# Altium schematic symbol library HW.SchLib: 328 symbols (part 8 of 10)
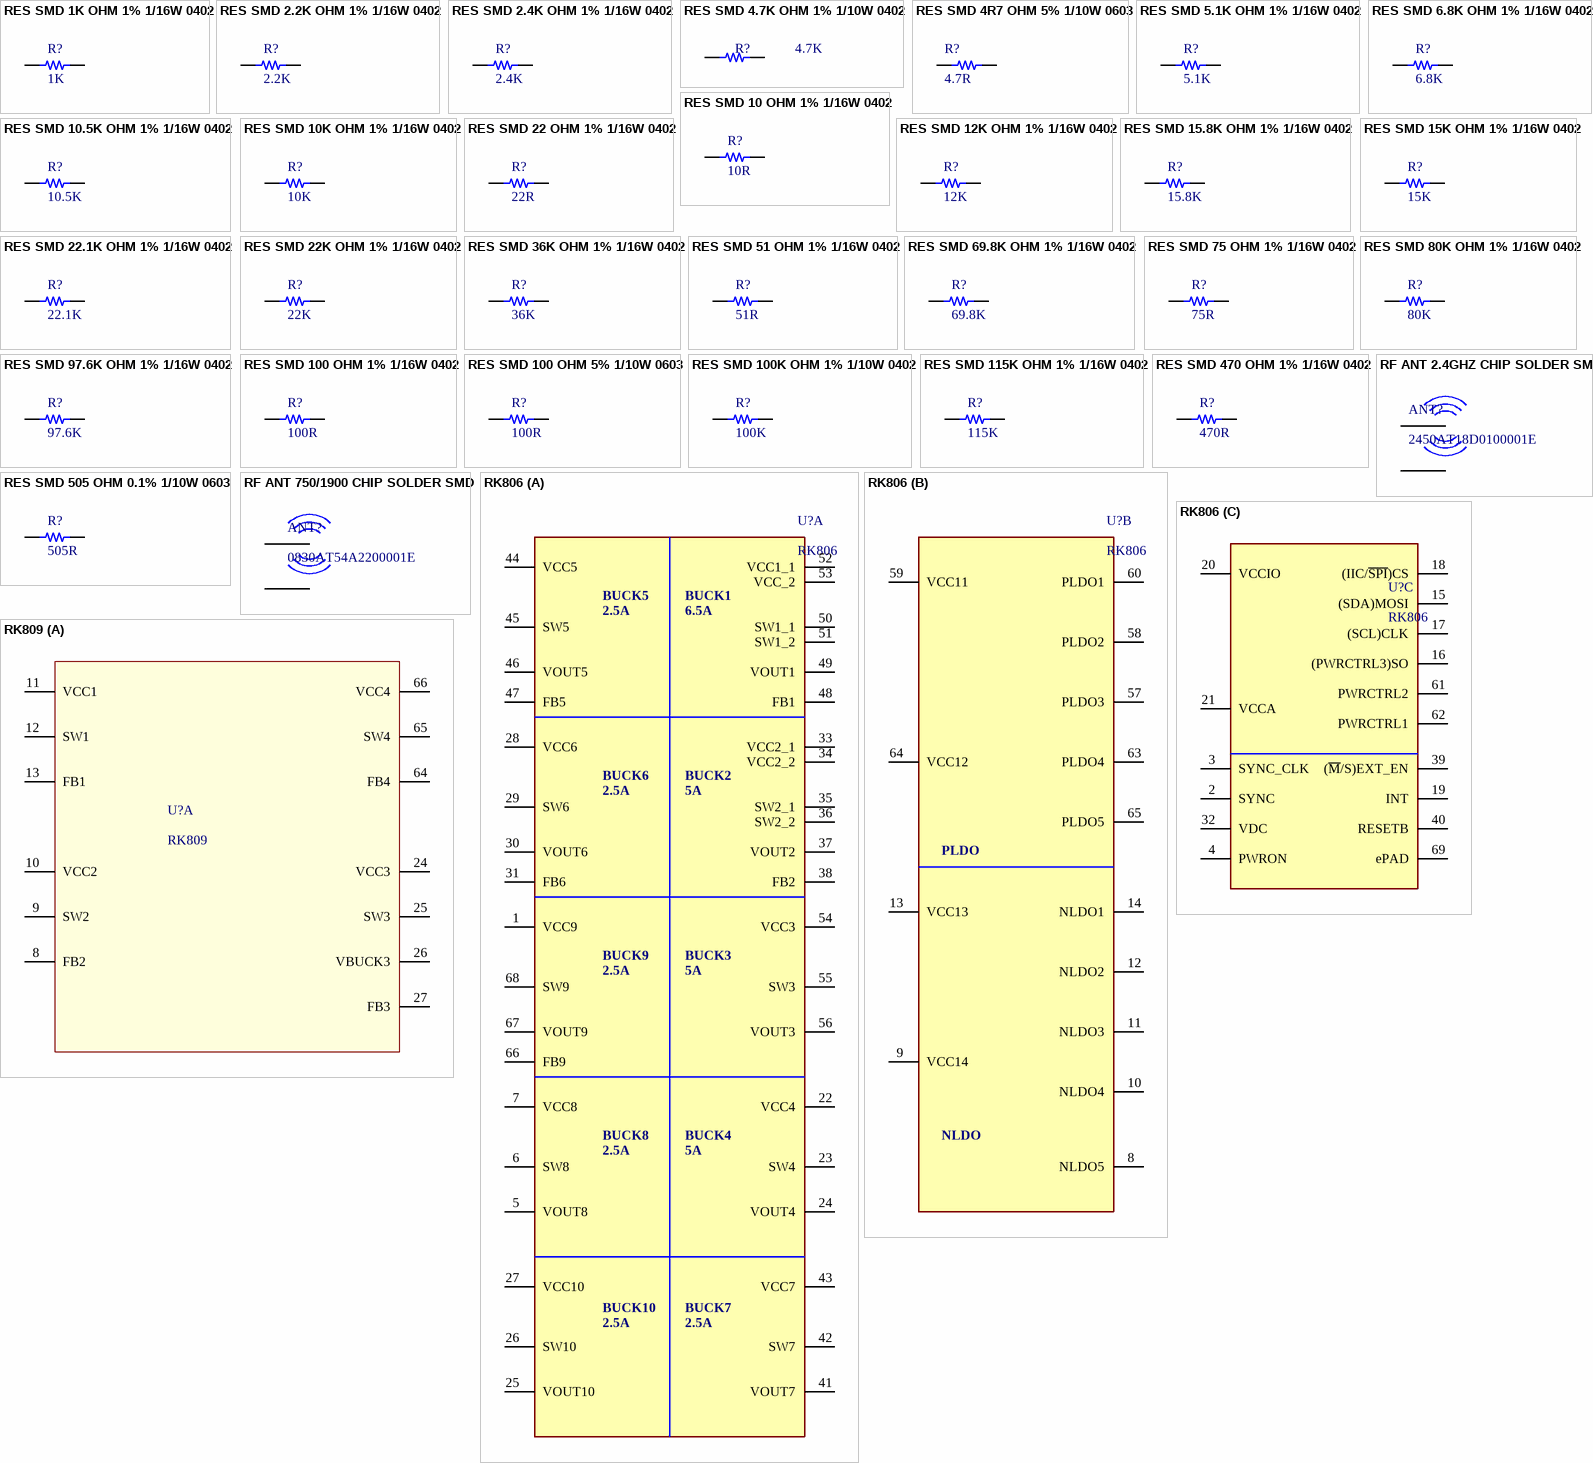
[diagram p30: symbols RES SMD 1K OHM 1% 1/16W 0402 to RK809]

## RES SMD 100 OHM 1% 1/16W 0402
designator R?, comment 100R
SMD Chip Resistor, 100 Ohm, ± 1%, 62.5 mW, 0402 [1005 Metric], Thick Film, General Purpose; Manufacturer: Yageo; Manufacturer Part Number: RC0402FR-07100RL; Power Rating: 62.5mW; Voltage Rating: 50V; Temperature Coefficient: 100ppm/°C; Max Power Dissipation: 63mW; Supplier 1: Future Electronics; RoHS: Yes; Category: Chip SMD Resistors; Stock 1: 6800000; Pricing 1: 10000=0.0012, 100000=0.0011, 300000=0.001, 750000=0.001, 2000000=0.0009 (USD); Case/Package: 0402; Number of Pins: 2; Case Code (Imperial): 0402; Case Code (Metric): 1005; Size Code: 0402; Min Operating Temperature: -55°C; Max Operating Temperature: 155°C; Tolerance: 1%; Voltage Rating (DC): 50V; Resistance: 100R; Packaging: Tape and Reel; Termination: SMD/SMT; Resistor Type: Thick Film; Features: Moisture Resistant; Series: RC; Number of Terminations: 2; Resistance Tolerance: 1%; Construction: Rectangular; Technology: THICK FILM; Length: 1mm; Width: 0.5mm; Height: 0.32mm; Depth: 0.5mm; RoHS Compliant: Yes; Reach SVHC Compliant: No; Military Standard: Not; Lead Free: Lead Free; ComponentLink1URL: https://datasheet.ciiva.com/11808/0900766b80c66297-11808765.pdf?src-supplier=Rs; ComponentLink1Description: https://datasheet.ciiva.com/11808/0900766b80c66297-11808765.pdf?src-supplier=Rs; ComponentLink2URL: https://datasheet.ciiva.com/7849/1784430-7849810.pdf?src-supplier=Element14; ComponentLink2Description: https://datasheet.ciiva.com/7849/1784430-7849810.pdf?src-supplier=Element14; ComponentLink3URL: https://datasheet.ciiva.com/28367/1018594-28367226.pdf?src-supplier=Element14; ComponentLink3Description: https://datasheet.ciiva.com/28367/1018594-28367226.pdf?src-supplier=Element14; ComponentLink4URL: https://datasheet.ciiva.com/22747/1018594-22747511.pdf?src-supplier=Element14; ComponentLink4Description: https://datasheet.ciiva.com/22747/1018594-22747511.pdf?src-supplier=Element14; ComponentLink5URL: https://datasheet.ciiva.com/12667/pyu-rc0402-51-rohs-l-6-r-12667957.pdf?src-supplier=Mouser; ComponentLink5Description: https://datasheet.ciiva.com/12667/pyu-rc0402-51-rohs-l-6-r-12667957.pdf?src-supplier=Mouser; ComponentLink6URL: https://datasheet.ciiva.com/15189/getdatasheetpartid-329466-15189335.pdf?src-supplier=Verical; ComponentLink6Description: https://datasheet.ciiva.com/15189/getdatasheetpartid-329466-15189335.pdf?src-supplier=Verical; ComponentLink7URL: https://datasheet.ciiva.com/16740/pyu-rc0402-51-rohs-l-6-r-16740566.pdf?src-supplier=Future+Electronics; ComponentLink7Description: https://datasheet.ciiva.com/16740/pyu-rc0402-51-rohs-l-6-r-16740566.pdf?src-supplier=Future+Electronics; Supplier Part Number 1: 2266856
footprint R0402B/1005MM
pins: 1, 2

## RES SMD 100 OHM 5% 1/10W 0603
designator R?, comment 100R
SMD Chip Resistor, 100 Ohm, ± 1%, 100 mW, 0603 [1608 Metric], Thick Film, General Purpose; Manufacturer: Yageo; Manufacturer Part Number: RC0603FR-07100RL; Temperature Coefficient: 100ppm/°C; Voltage Rating (DC): 50V; Power Rating: 100mW; Supplier 1: Future Electronics; RoHS: Yes; Category: Chip SMD Resistors; Stock 1: 6005000; Pricing 1: 5000=0.0015, 50000=0.0014, 150000=0.0014, 375000=0.0013, 1000000=0.0012 (USD); Case/Package: 0603; Number of Pins: 2; Case Code (Imperial): 0603; Case Code (Metric): 1608; Size Code: 0603; Min Operating Temperature: -55°C; Max Operating Temperature: 155°C; Resistance: 100R; Tolerance: 1%; Resistor Type: Thick Film; Packaging: Tape and Reel; Voltage Rating: 50V; Termination: SMD/SMT; Features: Moisture Resistant; Series: RC; Max Power Dissipation: 100mW; Number of Terminations: 2; Construction: Rectangular; Resistance Tolerance: 1%; Technology: THICK FILM; Length: 1.6mm; Width: 0.8mm; Height: 0.45mm; Depth: 0.8mm; Lead Free: Lead Free; Reach SVHC Compliant: Unknown; RoHS Compliant: Yes; Military Standard: Not; Supplier Part Number 1: 7334493
footprint R0603B/1608MM (Chip Resistor, 2-Leads, Body 1.6x0.8mm, IPC High Density)
pins: 1, 2

## RES SMD 100K OHM 1% 1/10W 0402
designator R?, comment 100K
SMD Chip Resistor, 100 kOhm, ± 1%, 63 mW, 0402 [1005 Metric], Thick Film, General Purpose; Manufacturer: Yageo; Manufacturer Part Number: RC0402FR-07100KL; Resistance: 100kR; Temperature Coefficient: 100ppm/°C; Power Rating: 63mW; Voltage Rating: 50V; Supplier 1: Future Electronics; RoHS: Yes; Category: Chip SMD Resistors; Stock 1: 29390000; Pricing 1: 10000=0.0019, 100000=0.0018, 300000=0.0017, 750000=0.0016, 2000000=0.0015 (USD); Case/Package: 0402; Case Code (Metric): 1005; Case Code (Imperial): 0402; Min Operating Temperature: -55°C; Max Operating Temperature: 155°C; Resistor Type: Thick Film; Tolerance: 1%; Packaging: Tape and Reel; Package Quantity: 1; Number of Terminations: 2; Termination: SMD/SMT; Max Power Dissipation: 63mW; Features: Moisture Resistant; Series: RC; Resistance Tolerance: 1%; Construction: Rectangular; Technology: THICK FILM; Voltage Rating (AC): 50V; Length: 0.039inch; Width: 0.02inch; Height: 0.016inch; Depth: 0.5mm; Reach SVHC Compliant: No; RoHS Compliant: Yes; Lead Free: 5697LeadFree; Military Standard: Not; ComponentLink1URL: https://datasheet.ciiva.com/11819/0900766b80c66297-11819452.pdf?src-supplier=Rs; ComponentLink1Description: https://datasheet.ciiva.com/11819/0900766b80c66297-11819452.pdf?src-supplier=Rs; ComponentLink2URL: https://datasheet.ciiva.com/22747/1018594-22747509.pdf?src-supplier=Element14; ComponentLink2Description: https://datasheet.ciiva.com/22747/1018594-22747509.pdf?src-supplier=Element14; ComponentLink3URL: https://datasheet.ciiva.com/2453/pyu-r-int-thick-7-2453362.pdf?src-supplier=Digikey; ComponentLink3Description: https://datasheet.ciiva.com/2453/pyu-r-int-thick-7-2453362.pdf?src-supplier=Digikey; ComponentLink4URL: https://datasheet.ciiva.com/2453/pyu-r-int-thick-7-2453363.pdf?src-supplier=Digikey; ComponentLink4Description: https://datasheet.ciiva.com/2453/pyu-r-int-thick-7-2453363.pdf?src-supplier=Digikey; ComponentLink5URL: https://datasheet.ciiva.com/2453/pyu-r-int-thick-7-2453361.pdf?src-supplier=Digikey; ComponentLink5Description: https://datasheet.ciiva.com/2453/pyu-r-int-thick-7-2453361.pdf?src-supplier=Digikey; ComponentLink6URL: https://datasheet.ciiva.com/12667/pyu-rc0402-51-rohs-l-6-r-12667930.pdf?src-supplier=Mouser; ComponentLink6Description: https://datasheet.ciiva.com/12667/pyu-rc0402-51-rohs-l-6-r-12667930.pdf?src-supplier=Mouser; ComponentLink7URL: https://datasheet.ciiva.com/15189/getdatasheetpartid-323696-15189334.pdf?src-supplier=Verical; ComponentLink7Description: https://datasheet.ciiva.com/15189/getdatasheetpartid-323696-15189334.pdf?src-supplier=Verical; Supplier Part Number 1: 6468466
footprint R0402B/1005MM
pins: 1, 2

## RES SMD 115K OHM 1% 1/16W 0402
designator R?, comment 115K
SMD Chip Resistor, 115 kOhm, ± 1%, 63 mW, 0402 [1005 Metric], Thick Film, General Purpose; Manufacturer: Yageo; Manufacturer Part Number: RC0402FR-07115KL; Resistance: 115kR; Voltage Rating: 50V; Temperature Coefficient: 100ppm/°C; Power Rating: 62.5mW; Max Power Dissipation: 63mW; Supplier 1: Future Electronics; RoHS: Yes; Category: Chip SMD Resistors; Stock 1: 1240000; Pricing 1: 10000=0.0013, 100000=0.0012, 300000=0.0012, 1250000=0.0011, 3000000=0.001 (USD); Case/Package: 0402; Contact Plating: Tin,Matte; Case Code (Imperial): 0402; Case Code (Metric): 1005; Size Code: 0402; Min Operating Temperature: -55°C; Max Operating Temperature: 155°C; Packaging: Tape and Reel; Tolerance: 1%; Termination: SMD/SMT; Series: RC; Number of Terminations: 2; Features: Moisture Resistant; Voltage Rating (DC): 50V; Length: 0.039inch; Width: 0.5mm; Height: 0.016inch; RoHS Compliant: Yes; Lead Free: 5697LeadFree; ComponentLink1URL: https://datasheet.ciiva.com/17419/pyu-rc0402-51-rohs-l-6-r-17419449.pdf?src-supplier=Future+Electronics; ComponentLink1Description: https://datasheet.ciiva.com/17419/pyu-rc0402-51-rohs-l-6-r-17419449.pdf?src-supplier=Future+Electronics; ComponentLink2URL: https://datasheet.ciiva.com/8887/pyu-rc0402-51-rohs-l-6-8887689.pdf?src-supplier=Avnet; ComponentLink2Description: https://datasheet.ciiva.com/8887/pyu-rc0402-51-rohs-l-6-8887689.pdf?src-supplier=Avnet; Supplier Part Number 1: 8456675
footprint R0402B/1005MM
pins: 1, 2

## RES SMD 470 OHM 1% 1/16W 0402
designator R?, comment 470R
SMD Chip Resistor, 470 Ohm, ± 1%, 63 mW, 0402 [1005 Metric], Thick Film, General Purpose; Manufacturer: Yageo; Manufacturer Part Number: AC0402FR-07470RL; Supplier 1: Future Electronics; RoHS: Yes; Category: Chip SMD Resistors; Stock 1: 200000; Pricing 1: 10000=0.0011, 50000=0.001, 200000=0.0009, 300000=0.0009, 500000=0.0009, 1000000=0.0009, 1250000=0.0008, 3000000=0.0008 (USD); Lead Free: 5697LeadFree; ComponentLink1URL: http://www.mouser.com/ds/2/447/yageodocoutput-1111992.pdf?src-supplier=Mouser; ComponentLink1Description: http://www.mouser.com/ds/2/447/yageodocoutput-1111992.pdf?src-supplier=Mouser; ComponentLink2URL: http://www.yageo.com/NewPortal/yageodocoutput?fileName=/pdf/R-Chip/PYu-AC_51_RoHS_L_6.pdf&src-supplier=Digikey; ComponentLink2Description: http://www.yageo.com/NewPortal/yageodocoutput?fileName=/pdf/R-Chip/PYu-AC_51_RoHS_L_6.pdf&src-supplier=Digikey; ComponentLink3URL: http://www.yageo.com/documents/recent/PYu-AC_51_RoHS_L_2_revised.pdf?src-supplier=Future+Electronics; ComponentLink3Description: http://www.yageo.com/documents/recent/PYu-AC_51_RoHS_L_2_revised.pdf?src-supplier=Future+Electronics; ComponentLink4URL: https://datasheet.octopart.com/AC0402FR-07470RL-Yageo-datasheet-151884373.pdf?src-supplier=Future+Electronics; ComponentLink4Description: https://datasheet.octopart.com/AC0402FR-07470RL-Yageo-datasheet-151884373.pdf?src-supplier=Future+Electronics; Supplier Part Number 1: 6028462
footprint R0402B/1005MM
pins: 1, 2

## RES SMD 505 OHM 0.1% 1/10W 0603
designator R?, comment 505R
High Precision-High Stability Chip Resistor Thin Film 0603 505Ohm 0.1% Paper T/R; Manufacturer: Yageo; Manufacturer Part Number: RT0603BRD07505RL; Max Power Dissipation: 100mW; Temperature Coefficient: 25ppm/°C; Supplier 1: Digikey; RoHS: Yes; Category: Chip SMD Resistors; Stock 1: 10926; Pricing 1: 1=0.14, 10=0.104, 50=0.0822, 100=0.0737, 500=0.05612, 1000=0.04959 (USD); Case/Package: 0603; Min Operating Temperature: -55°C; Max Operating Temperature: 155°C; Packaging: Tape and Reel; Resistance: 505R; Number of Terminations: 2; Tolerance: 0.1%; Series: RT; RoHS Compliant: Yes; ComponentLink1URL: http://www.yageo.com/documents/recent/PYu-RT_1-to-0.01_RoHS_L_8.pdf?src-supplier=Digikey; ComponentLink1Description: http://www.yageo.com/documents/recent/PYu-RT_1-to-0.01_RoHS_L_8.pdf?src-supplier=Digikey; Supplier Part Number 1: 13-RT0603BRD07505RLCT-ND
footprint R0603B/1608MM (Chip Resistor, 2-Leads, Body 1.6x0.8mm, IPC High Density)
pins: 1, 2

## RF ANT 2.4GHZ CHIP SOLDER SMD
designator ANT?, comment 2450AT18D0100001E
RF ANT 2.4GHZ CHIP SOLDER SMD; Manufacturer: Johanson; Supplier 1: Digikey; Manufacturer Part Number: 2450AT18D0100001E; RoHS: No; Stock 1: 372086; Pricing 1: 1=0.68, 10=0.595, 25=0.5592, 100=0.4564, 250=0.42392, 500=0.36078, 1000=0.28862 (USD); Supplier Part Number 1: 712-2450AT18D0100001ECT-ND
footprint ANT_JOH_2450AT18D0100 (Antenna, Johanson 2450AT18D0100)
pins: 1 AT, 2 0, 3, 4

## RF ANT 750/1900 CHIP SOLDER SMD
designator ANT?, comment 0830AT54A2200001E
Rf Ant 750/1900 Chip Solder SMD; Manufacturer: Johanson; Supplier 1: Digikey; Manufacturer Part Number: 0830AT54A2200001E; RoHS: Yes; Category: RF Antennas; Stock 1: 3132; Pricing 1: 1=2.59, 10=2.323, 25=2.1912, 100=1.8669, 250=1.75296, 500=1.53384, 1000=1.27089, 2500=1.18324, 5000=1.13942 (USD); RoHS Compliant: Yes; Supplier Part Number 1: 712-0830AT54A2200001ECT-ND
footprint 0830AT54A2200E_JOT
pins: 1 AT, 2 0

## RK806
designator U?
Power Management IC
footprint QFN-68
part A pins: 1 VCC9, 5 VOUT8, 6 SW8, 7 VCC8, 22 VCC4, 23 SW4, 24 VOUT4, 25 VOUT10, 26 SW10, 27 VCC10, 28 VCC6, 29 SW6, 30 VOUT6, 31 FB6, 33 VCC2_1, 34 VCC2_2, 35 SW2_1, 36 SW2_2, 37 VOUT2, 38 FB2, 41 VOUT7, 42 SW7, 43 VCC7, 44 VCC5, 45 SW5, 46 VOUT5, 47 FB5, 48 FB1, 49 VOUT1, 50 SW1_1, 51 SW1_2, 52 VCC1_1, 53 VCC_2, 54 VCC3, 55 SW3, 56 VOUT3, 66 FB9, 67 VOUT9, 68 SW9
part B pins: 8 NLDO5, 9 VCC14, 10 NLDO4, 11 NLDO3, 12 NLDO2, 13 VCC13, 14 NLDO1, 57 PLDO3, 58 PLDO2, 59 VCC11, 60 PLDO1, 63 PLDO4, 64 VCC12, 65 PLDO5
part C pins: 2 SYNC, 3 SYNC_CLK, 4 PWRON, 15 (SDA)MOSI, 16 (PWRCTRL3)SO, 17 (SCL)CLK, 18 (IIC/~{SPI})CS, 19 INT, 20 VCCIO, 21 VCCA, 32 VDC, 39 (~{M}/S)EXT_EN, 40 RESETB, 61 PWRCTRL2, 62 PWRCTRL1, 69 ePAD
part A text: BUCK5; BUCK1; 2.5A; 6.5A; BUCK6; BUCK2; 5A; BUCK9; BUCK3; BUCK8; BUCK4; BUCK10; BUCK7
part B text: PLDO; NLDO

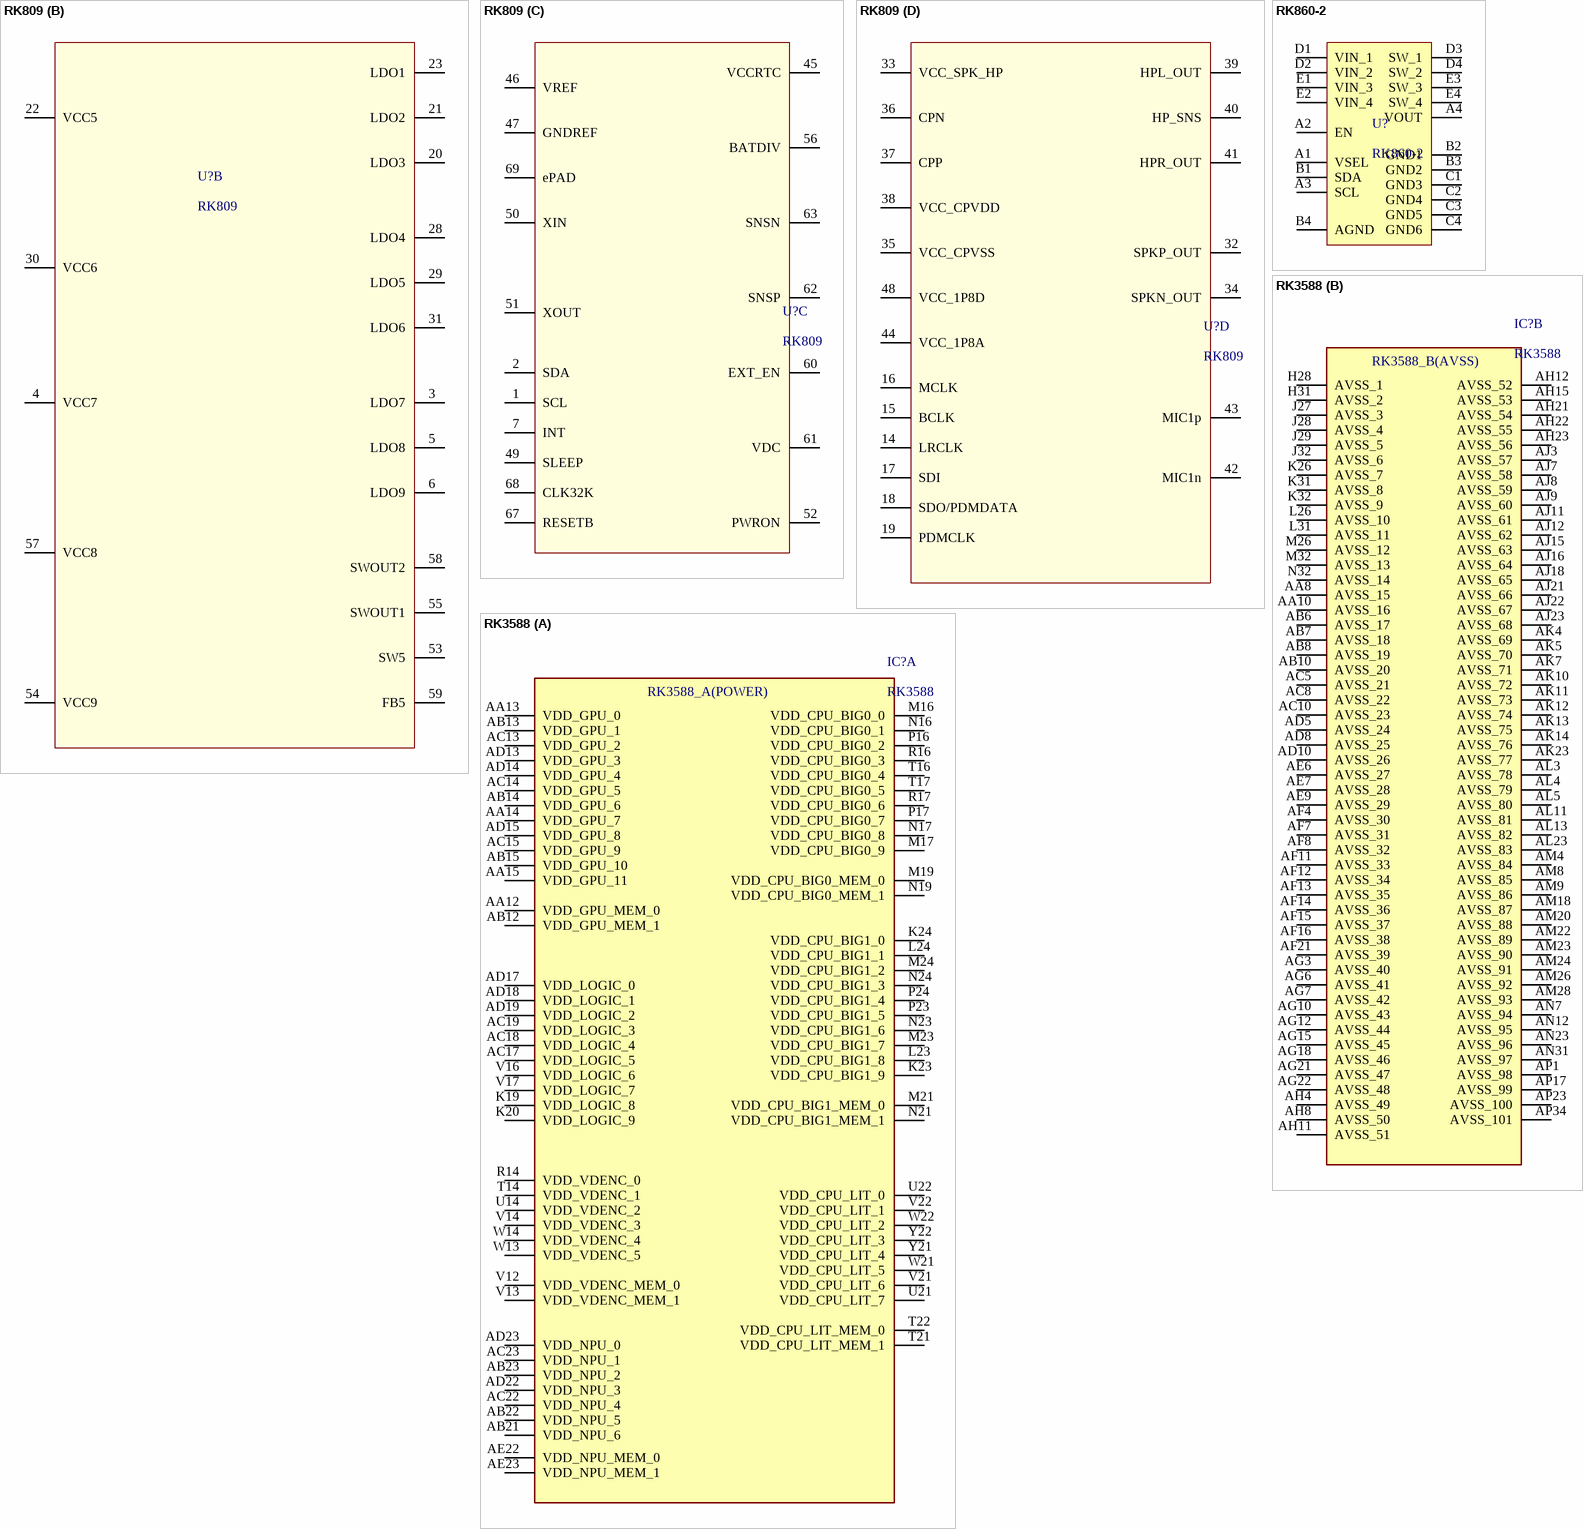
[diagram p9: symbols RK809 to RK3588]

## RK809
designator U?
Power Management IC
footprint QFN35P700X700X80-69N
part A pins: 8 FB2, 9 SW2, 10 VCC2, 11 VCC1, 12 SW1, 13 FB1, 24 VCC3, 25 SW3, 26 VBUCK3, 27 FB3, 64 FB4, 65 SW4, 66 VCC4
part B pins: 3 LDO7, 4 VCC7, 5 LDO8, 6 LDO9, 20 LDO3, 21 LDO2, 22 VCC5, 23 LDO1, 28 LDO4, 29 LDO5, 30 VCC6, 31 LDO6, 53 SW5, 54 VCC9, 55 SWOUT1, 57 VCC8, 58 SWOUT2, 59 FB5
part C pins: 1 SCL, 2 SDA, 7 INT, 45 VCCRTC, 46 VREF, 47 GNDREF, 49 SLEEP, 50 XIN, 51 XOUT, 52 PWRON, 56 BATDIV, 60 EXT_EN, 61 VDC, 62 SNSP, 63 SNSN, 67 RESETB, 68 CLK32K, 69 ePAD
part D pins: 14 LRCLK, 15 BCLK, 16 MCLK, 17 SDI, 18 SDO/PDMDATA, 19 PDMCLK, 32 SPKP_OUT, 33 VCC_SPK_HP, 34 SPKN_OUT, 35 VCC_CPVSS, 36 CPN, 37 CPP, 38 VCC_CPVDD, 39 HPL_OUT, 40 HP_SNS, 41 HPR_OUT, 42 MIC1n, 43 MIC1p, 44 VCC_1P8A, 48 VCC_1P8D

## RK860-2
designator U?
footprint WLCSP-20-P1_NMD
pins: A1 VSEL, A2 EN, A3 SCL, A4 VOUT, B1 SDA, B2 GND1, B3 GND2, B4 AGND, C1 GND3, C2 GND4, C3 GND5, C4 GND6, D1 VIN_1, D2 VIN_2, D3 SW_1, D4 SW_2, E1 VIN_3, E2 VIN_4, E3 SW_3, E4 SW_4

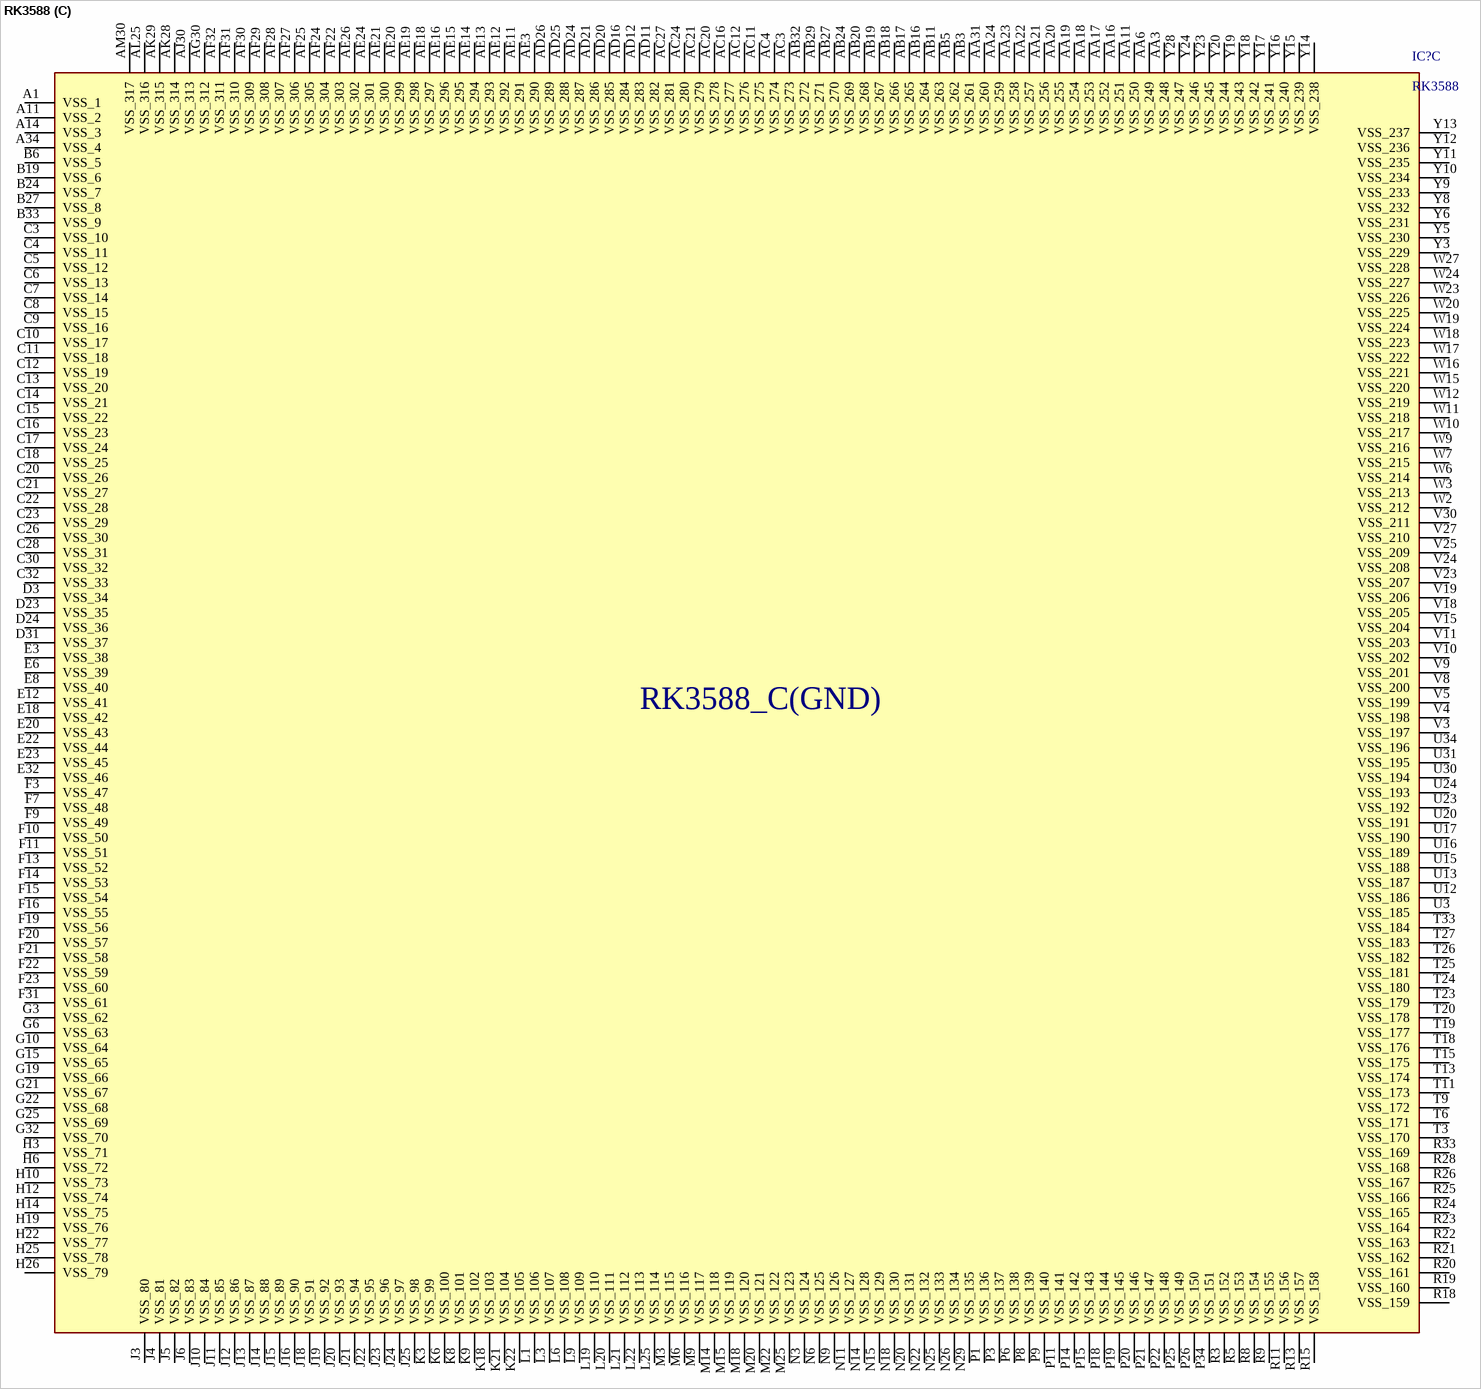
[diagram p10: symbol RK3588]

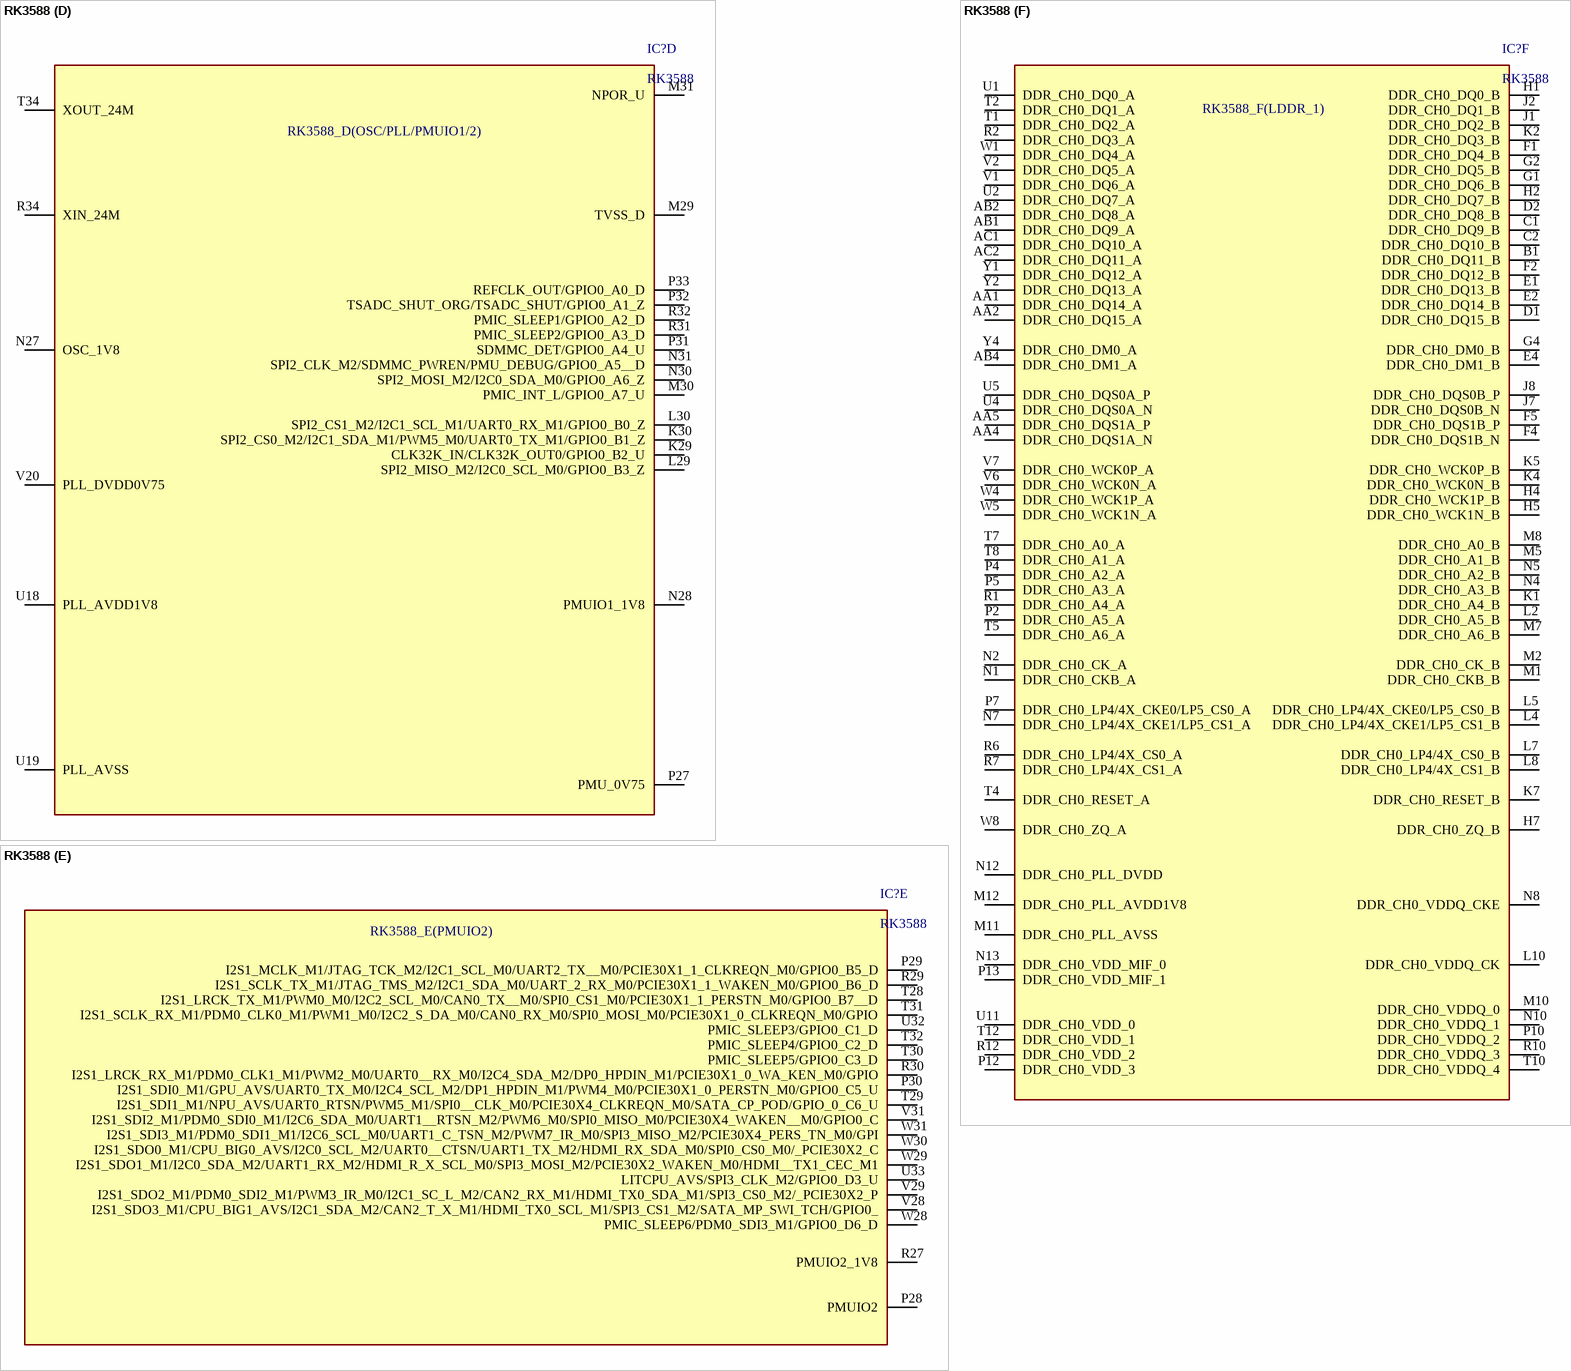
[diagram p11: symbol RK3588]

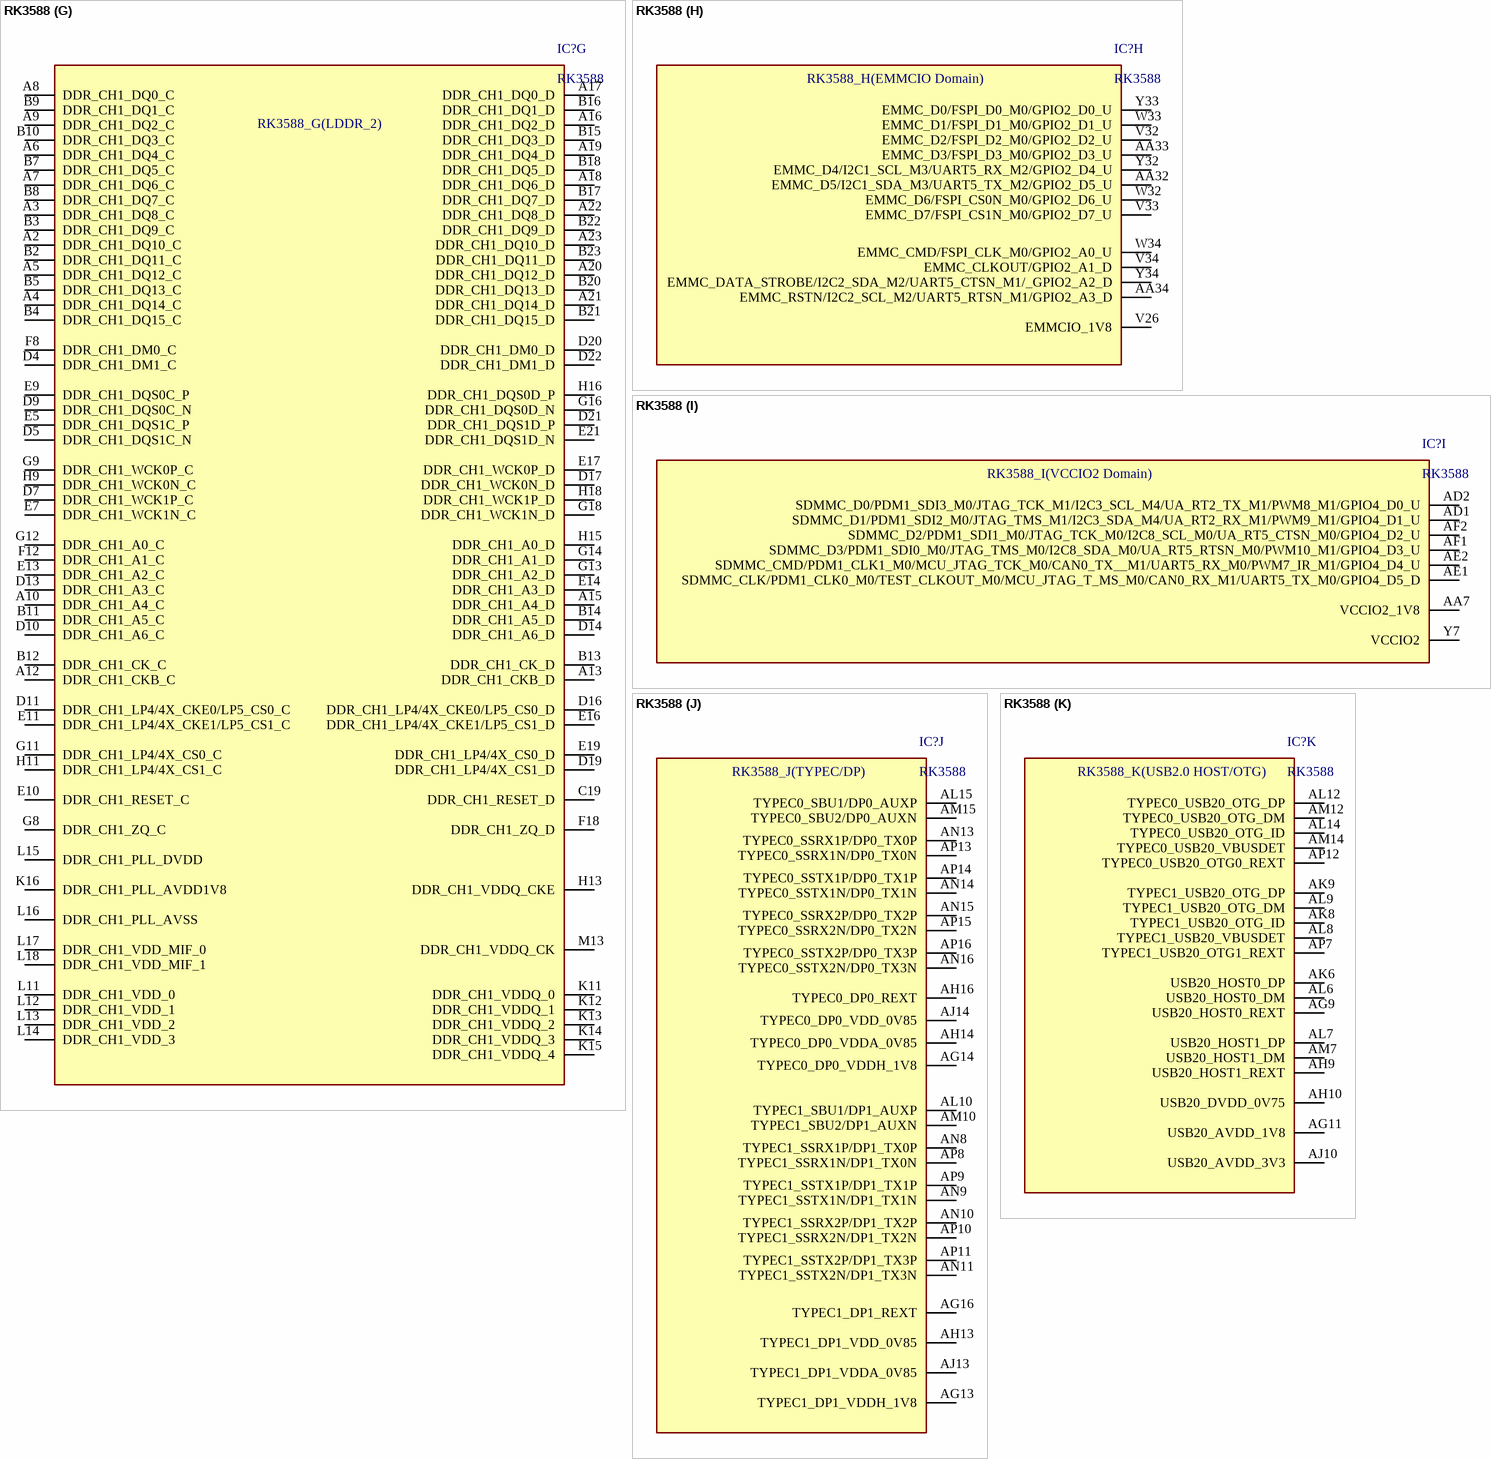
[diagram p12: symbol RK3588]

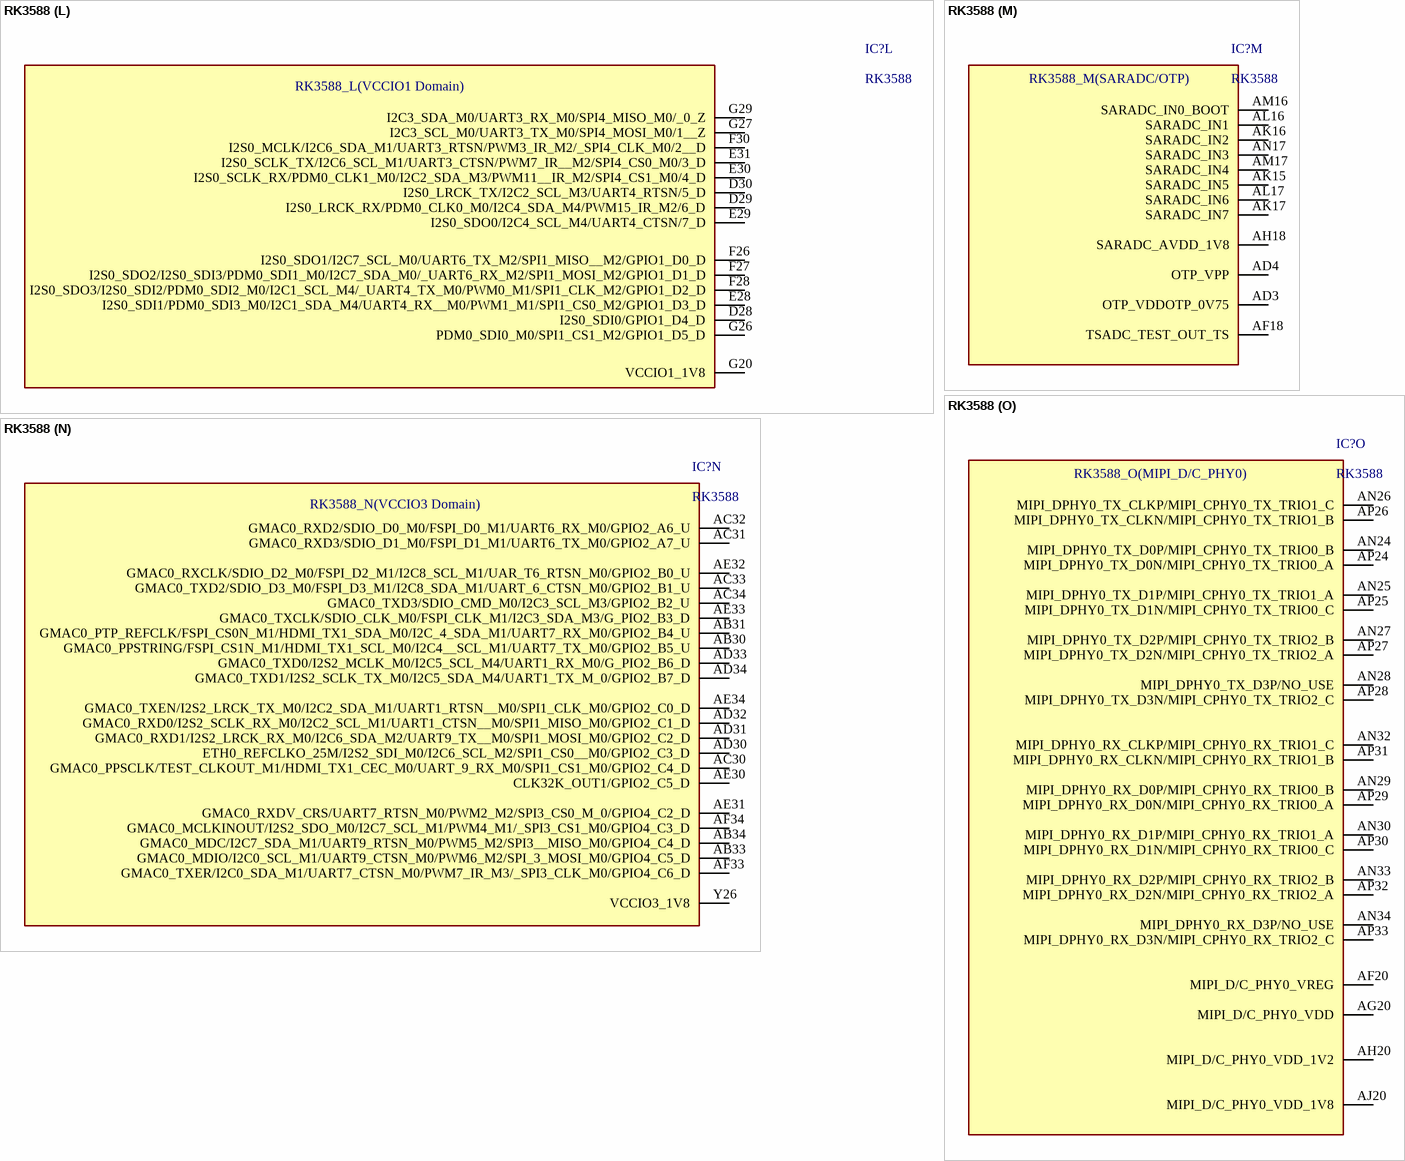
[diagram p13: symbol RK3588]

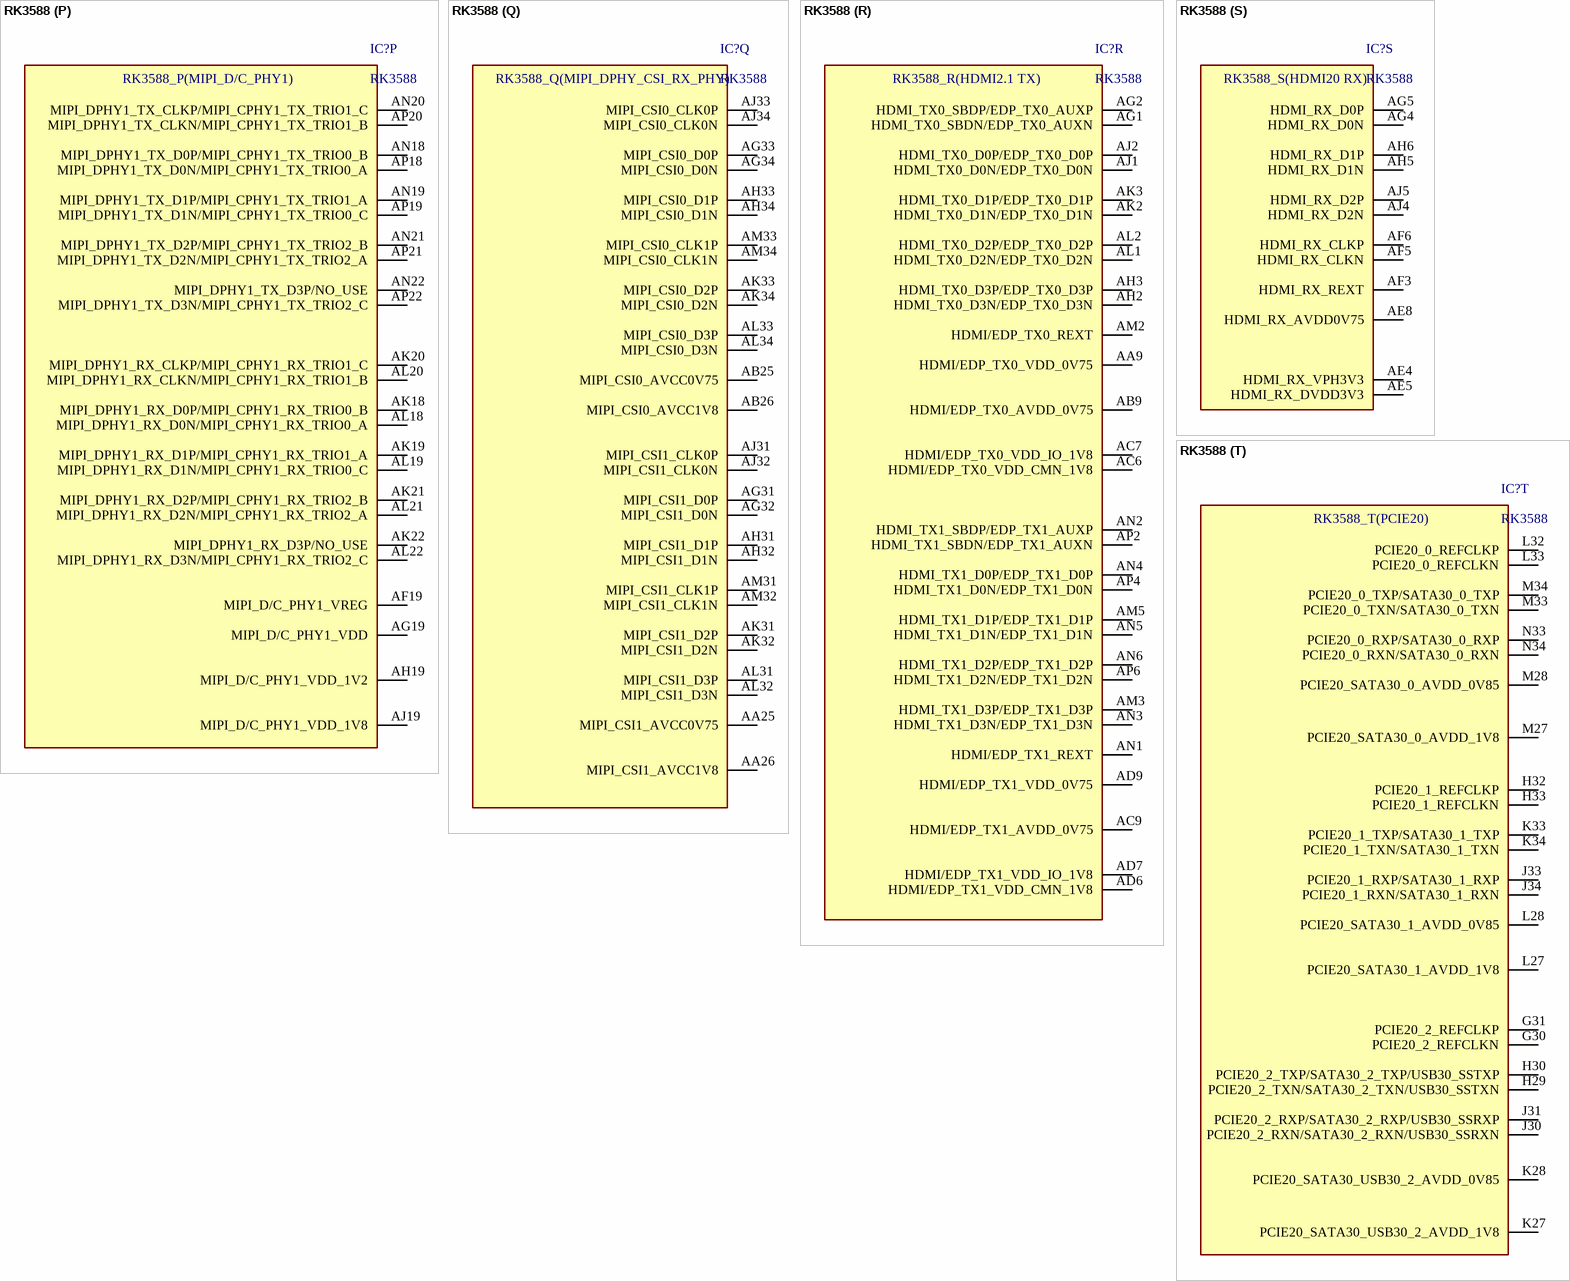
[diagram p14: symbol RK3588]

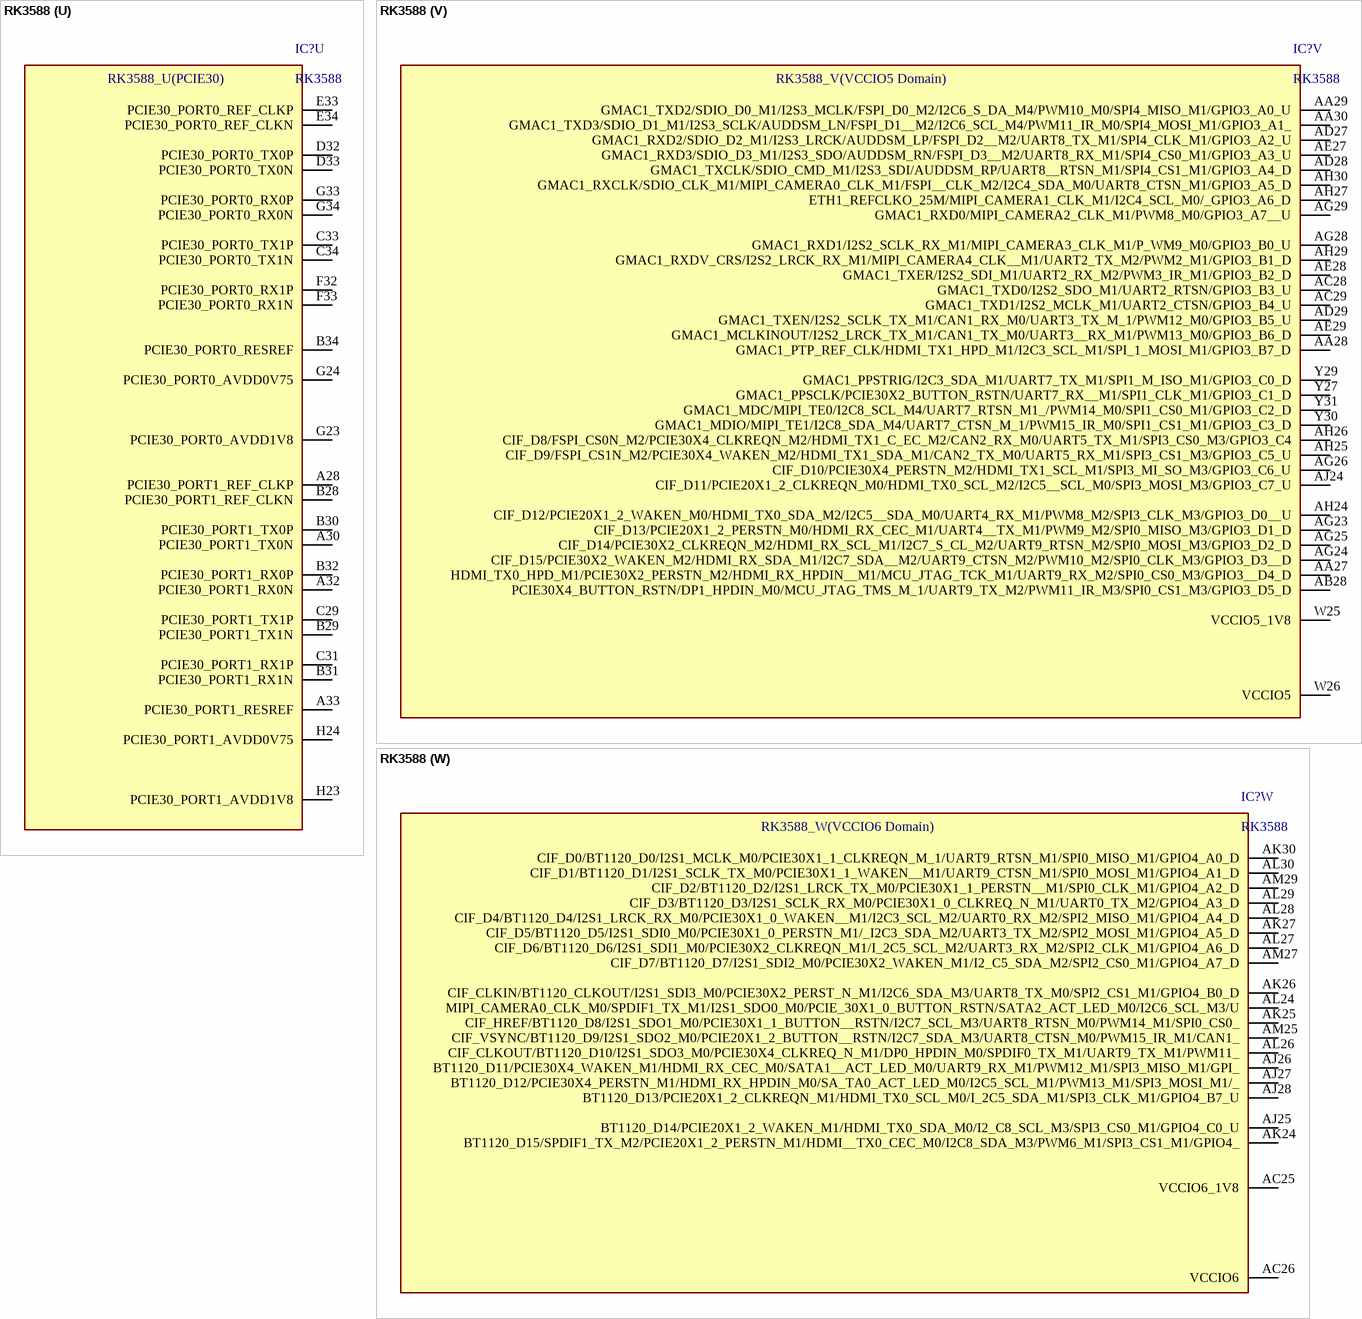
[diagram p15: symbol RK3588]

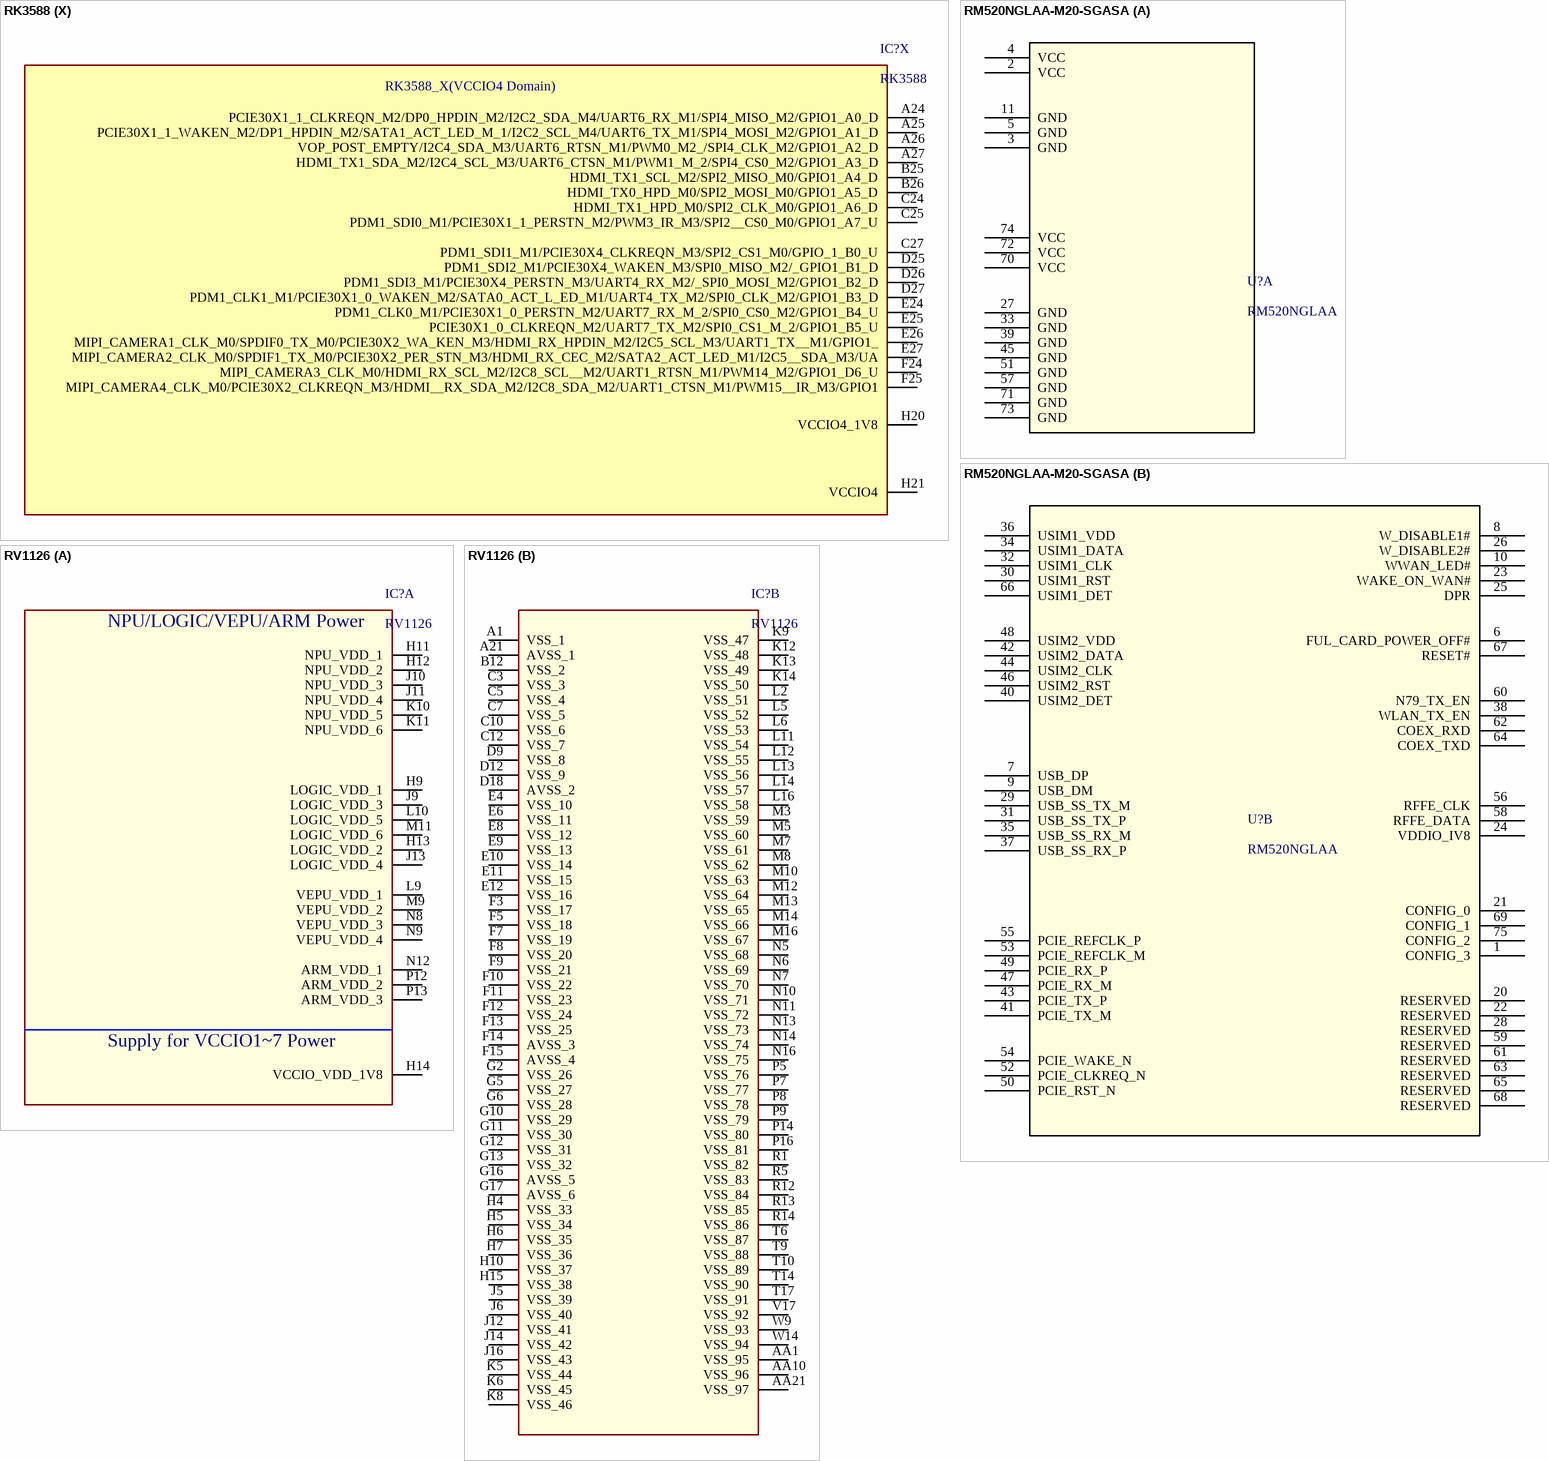
[diagram p16: symbols RK3588 to RV1126]

## RK3588
designator IC?
Integrated Circuit; Manufacturer_Name: Rockchip; Datasheet Link: https://www.cnx-software.com/pdf/Rockchip%C2%A0RK3588%C2%A0Datasheet%C2%A0V0.1-20210727.pdf; Height: 1.89mm; Manufacturer_Part_Number: RK3588
footprint BGA1088C65P34X34_RK3588
part A pins: AA12 VDD_GPU_MEM_0, AA13 VDD_GPU_0, AA14 VDD_GPU_7, AA15 VDD_GPU_11, AB12 VDD_GPU_MEM_1, AB13 VDD_GPU_1, AB14 VDD_GPU_6, AB15 VDD_GPU_10, AB21 VDD_NPU_6, AB22 VDD_NPU_5, AB23 VDD_NPU_2, AC13 VDD_GPU_2, AC14 VDD_GPU_5, AC15 VDD_GPU_9, AC17 VDD_LOGIC_5, AC18 VDD_LOGIC_4, AC19 VDD_LOGIC_3, AC22 VDD_NPU_4, AC23 VDD_NPU_1, AD13 VDD_GPU_3, AD14 VDD_GPU_4, AD15 VDD_GPU_8, AD17 VDD_LOGIC_0, AD18 VDD_LOGIC_1, AD19 VDD_LOGIC_2, AD22 VDD_NPU_3, AD23 VDD_NPU_0, AE22 VDD_NPU_MEM_0, AE23 VDD_NPU_MEM_1, K19 VDD_LOGIC_8, K20 VDD_LOGIC_9, K23 VDD_CPU_BIG1_9, K24 VDD_CPU_BIG1_0, L23 VDD_CPU_BIG1_8, L24 VDD_CPU_BIG1_1, M16 VDD_CPU_BIG0_0, M17 VDD_CPU_BIG0_9, M19 VDD_CPU_BIG0_MEM_0, M21 VDD_CPU_BIG1_MEM_0, M23 VDD_CPU_BIG1_7, M24 VDD_CPU_BIG1_2, N16 VDD_CPU_BIG0_1, N17 VDD_CPU_BIG0_8, N19 VDD_CPU_BIG0_MEM_1, N21 VDD_CPU_BIG1_MEM_1, N23 VDD_CPU_BIG1_6, N24 VDD_CPU_BIG1_3, P16 VDD_CPU_BIG0_2, P17 VDD_CPU_BIG0_7, P23 VDD_CPU_BIG1_5, P24 VDD_CPU_BIG1_4, R14 VDD_VDENC_0, R16 VDD_CPU_BIG0_3, R17 VDD_CPU_BIG0_6, T14 VDD_VDENC_1, T16 VDD_CPU_BIG0_4, T17 VDD_CPU_BIG0_5, T21 VDD_CPU_LIT_MEM_1, T22 VDD_CPU_LIT_MEM_0, U14 VDD_VDENC_2, U21 VDD_CPU_LIT_7, U22 VDD_CPU_LIT_0, V12 VDD_VDENC_MEM_0, V13 VDD_VDENC_MEM_1, V14 VDD_VDENC_3, V16 VDD_LOGIC_6, V17 VDD_LOGIC_7, V21 VDD_CPU_LIT_6, V22 VDD_CPU_LIT_1, W13 VDD_VDENC_5, W14 VDD_VDENC_4, W21 VDD_CPU_LIT_5, W22 VDD_CPU_LIT_2, Y21 VDD_CPU_LIT_4, Y22 VDD_CPU_LIT_3
part B pins: AA8 AVSS_15, AA10 AVSS_16, AB6 AVSS_17, AB7 AVSS_18, AB8 AVSS_19, AB10 AVSS_20, AC5 AVSS_21, AC8 AVSS_22, AC10 AVSS_23, AD5 AVSS_24, AD8 AVSS_25, AD10 AVSS_26, AE6 AVSS_27, AE7 AVSS_28, AE9 AVSS_29, AF4 AVSS_30, AF7 AVSS_31, AF8 AVSS_32, AF11 AVSS_33, AF12 AVSS_34, AF13 AVSS_35, AF14 AVSS_36, AF15 AVSS_37, AF16 AVSS_38, AF21 AVSS_39, AG3 AVSS_40, AG6 AVSS_41, AG7 AVSS_42, AG10 AVSS_43, AG12 AVSS_44, AG15 AVSS_45, AG18 AVSS_46, AG21 AVSS_47, AG22 AVSS_48, AH4 AVSS_49, AH8 AVSS_50, AH11 AVSS_51, AH12 AVSS_52, AH15 AVSS_53, AH21 AVSS_54, AH22 AVSS_55, AH23 AVSS_56, AJ3 AVSS_57, AJ7 AVSS_58, AJ8 AVSS_59, AJ9 AVSS_60, AJ11 AVSS_61, AJ12 AVSS_62, AJ15 AVSS_63, AJ16 AVSS_64, AJ18 AVSS_65, AJ21 AVSS_66, AJ22 AVSS_67, AJ23 AVSS_68, AK4 AVSS_69, AK5 AVSS_70, AK7 AVSS_71, AK10 AVSS_72, AK11 AVSS_73, AK12 AVSS_74, AK13 AVSS_75, AK14 AVSS_76, AK23 AVSS_77, AL3 AVSS_78, AL4 AVSS_79, AL5 AVSS_80, AL11 AVSS_81, AL13 AVSS_82, AL23 AVSS_83, AM4 AVSS_84, AM8 AVSS_85, AM9 AVSS_86, AM18 AVSS_87, AM20 AVSS_88, AM22 AVSS_89, AM23 AVSS_90, AM24 AVSS_91, AM26 AVSS_92, AM28 AVSS_93, AN7 AVSS_94, AN12 AVSS_95, AN23 AVSS_96, AN31 AVSS_97, AP1 AVSS_98, AP17 AVSS_99, AP23 AVSS_100, AP34 AVSS_101, H28 AVSS_1, H31 AVSS_2, J27 AVSS_3, J28 AVSS_4, J29 AVSS_5, J32 AVSS_6, K26 AVSS_7, K31 AVSS_8, K32 AVSS_9, L26 AVSS_10, L31 AVSS_11, M26 AVSS_12, M32 AVSS_13, N32 AVSS_14
part C pins: A1 VSS_1, A11 VSS_2, A14 VSS_3, A34 VSS_4, AA3 VSS_248, AA6 VSS_249, AA11 VSS_250, AA16 VSS_251, AA17 VSS_252, AA18 VSS_253, AA19 VSS_254, AA20 VSS_255, AA21 VSS_256, AA22 VSS_257, AA23 VSS_258, AA24 VSS_259, AA31 VSS_260, AB3 VSS_261, AB5 VSS_262, AB11 VSS_263, AB16 VSS_264, AB17 VSS_265, AB18 VSS_266, AB19 VSS_267, AB20 VSS_268, AB24 VSS_269, AB27 VSS_270, AB29 VSS_271, AB32 VSS_272, AC3 VSS_273, AC4 VSS_274, AC11 VSS_275, AC12 VSS_276, AC16 VSS_277, AC20 VSS_278, AC21 VSS_279, AC24 VSS_280, AC27 VSS_281, AD11 VSS_282, AD12 VSS_283, AD16 VSS_284, AD20 VSS_285, AD21 VSS_286, AD24 VSS_287, AD25 VSS_288, AD26 VSS_289, AE3 VSS_290, AE11 VSS_291, AE12 VSS_292, AE13 VSS_293, AE14 VSS_294, AE15 VSS_295, AE16 VSS_296, AE18 VSS_297, AE19 VSS_298, AE20 VSS_299, AE21 VSS_300, AE24 VSS_301, AE26 VSS_302, AF22 VSS_303, AF24 VSS_304, AF25 VSS_305, AF27 VSS_306, AF28 VSS_307, AF29 VSS_308, AF30 VSS_309, AF31 VSS_310, AF32 VSS_311, AG30 VSS_312, AJ30 VSS_313, AK28 VSS_314, AK29 VSS_315, AL25 VSS_316, AM30 VSS_317, B6 VSS_5, B19 VSS_6, B24 VSS_7, B27 VSS_8, B33 VSS_9, C3 VSS_10, C4 VSS_11, C5 VSS_12, C6 VSS_13, C7 VSS_14, C8 VSS_15, C9 VSS_16, C10 VSS_17, C11 VSS_18, C12 VSS_19, C13 VSS_20, C14 VSS_21, C15 VSS_22, C16 VSS_23, C17 VSS_24, C18 VSS_25, C20 VSS_26, C21 VSS_27, C22 VSS_28, C23 VSS_29, C26 VSS_30, C28 VSS_31, C30 VSS_32, C32 VSS_33, D3 VSS_34, D23 VSS_35, D24 VSS_36, D31 VSS_37, E3 VSS_38, E6 VSS_39, E8 VSS_40, E12 VSS_41, E18 VSS_42, E20 VSS_43, E22 VSS_44, E23 VSS_45, E32 VSS_46, F3 VSS_47, F7 VSS_48, F9 VSS_49, F10 VSS_50, F11 VSS_51, F13 VSS_52, F14 VSS_53, F15 VSS_54, F16 VSS_55, F19 VSS_56, F20 VSS_57, F21 VSS_58, F22 VSS_59, F23 VSS_60, F31 VSS_61, G3 VSS_62, G6 VSS_63, G10 VSS_64, G15 VSS_65, G19 VSS_66, G21 VSS_67, G22 VSS_68, G25 VSS_69, G32 VSS_70, H3 VSS_71, H6 VSS_72, H10 VSS_73, H12 VSS_74, H14 VSS_75, H19 VSS_76, H22 VSS_77, H25 VSS_78, H26 VSS_79, J3 VSS_80, J4 VSS_81, J5 VSS_82, J6 VSS_83, J10 VSS_84, J11 VSS_85, J12 VSS_86, J13 VSS_87, J14 VSS_88, J15 VSS_89, J16 VSS_90, J18 VSS_91, J19 VSS_92, J20 VSS_93, J21 VSS_94, J22 VSS_95, J23 VSS_96, J24 VSS_97, J25 VSS_98, K3 VSS_99, K6 VSS_100, K8 VSS_101, K9 VSS_102, K18 VSS_103, K21 VSS_104, K22 VSS_105, L1 VSS_106, L3 VSS_107, L6 VSS_108, L9 VSS_109, L19 VSS_110, L20 VSS_111, L21 VSS_112, L22 VSS_113, L25 VSS_114, M3 VSS_115, M6 VSS_116, M9 VSS_117, M14 VSS_118, M15 VSS_119, M18 VSS_120, M20 VSS_121, M22 VSS_122, M25 VSS_123, N3 VSS_124, N6 VSS_125, N9 VSS_126, N11 VSS_127, N14 VSS_128, N15 VSS_129, N18 VSS_130, N20 VSS_131, N22 VSS_132, N25 VSS_133, N26 VSS_134, N29 VSS_135, P1 VSS_136, P3 VSS_137, P6 VSS_138, P8 VSS_139, P9 VSS_140, P11 VSS_141, P14 VSS_142, P15 VSS_143, P18 VSS_144, P19 VSS_145, P20 VSS_146, P21 VSS_147, P22 VSS_148, P25 VSS_149, P26 VSS_150, P34 VSS_151, R3 VSS_152, R5 VSS_153, R8 VSS_154, R9 VSS_155, R11 VSS_156, R13 VSS_157, R15 VSS_158, R18 VSS_159, R19 VSS_160, R20 VSS_161, R21 VSS_162, R22 VSS_163, R23 VSS_164, R24 VSS_165, R25 VSS_166, R26 VSS_167, R28 VSS_168, R33 VSS_169, T3 VSS_170, T6 VSS_171, T9 VSS_172, T11 VSS_173, T13 VSS_174, T15 VSS_175, T18 VSS_176, T19 VSS_177, T20 VSS_178, T23 VSS_179, T24 VSS_180, T25 VSS_181, T26 VSS_182, T27 VSS_183, T33 VSS_184, U3 VSS_185, U12 VSS_186, U13 VSS_187, U15 VSS_188, U16 VSS_189, U17 VSS_190, U20 VSS_191, U23 VSS_192, U24 VSS_193, U30 VSS_194, U31 VSS_195, U34 VSS_196, V3 VSS_197, V4 VSS_198, V5 VSS_199, V8 VSS_200, V9 VSS_201, V10 VSS_202, V11 VSS_203, V15 VSS_204, V18 VSS_205, V19 VSS_206, V23 VSS_207, V24 VSS_208, V25 VSS_209, V27 VSS_210, V30 VSS_211, W2 VSS_212, W3 VSS_213, W6 VSS_214, W7 VSS_215, W9 VSS_216, W10 VSS_217, W11 VSS_218, W12 VSS_219, W15 VSS_220, W16 VSS_221, W17 VSS_222, W18 VSS_223, W19 VSS_224, W20 VSS_225, W23 VSS_226, W24 VSS_227, W27 VSS_228, Y3 VSS_229, Y5 VSS_230, Y6 VSS_231, Y8 VSS_232, Y9 VSS_233, Y10 VSS_234, Y11 VSS_235, Y12 VSS_236, Y13 VSS_237, Y14 VSS_238, Y15 VSS_239, Y16 VSS_240, Y17 VSS_241, Y18 VSS_242, Y19 VSS_243, Y20 VSS_244, Y23 VSS_245, Y24 VSS_246, Y28 VSS_247
part D pins: K29 CLK32K_IN/CLK32K_OUT0/GPIO0_B2_U, K30 SPI2_CS0_M2/I2C1_SDA_M1/PWM5_M0/UART0_TX_M1/GPIO0_B1_Z, L29 SPI2_MISO_M2/I2C0_SCL_M0/GPIO0_B3_Z, L30 SPI2_CS1_M2/I2C1_SCL_M1/UART0_RX_M1/GPIO0_B0_Z, M29 TVSS_D, M30 PMIC_INT_L/GPIO0_A7_U, M31 NPOR_U, N27 OSC_1V8, N28 PMUIO1_1V8, N30 SPI2_MOSI_M2/I2C0_SDA_M0/GPIO0_A6_Z, N31 SPI2_CLK_M2/SDMMC_PWREN/PMU_DEBUG/GPIO0_A5__D, P27 PMU_0V75, P31 SDMMC_DET/GPIO0_A4_U, P32 TSADC_SHUT_ORG/TSADC_SHUT/GPIO0_A1_Z, P33 REFCLK_OUT/GPIO0_A0_D, R31 PMIC_SLEEP2/GPIO0_A3_D, R32 PMIC_SLEEP1/GPIO0_A2_D, R34 XIN_24M, T34 XOUT_24M, U18 PLL_AVDD1V8, U19 PLL_AVSS, V20 PLL_DVDD0V75
part E pins: P28 PMUIO2, P29 I2S1_MCLK_M1/JTAG_TCK_M2/I2C1_SCL_M0/UART2_TX__M0/PCIE30X1_1_CLKREQN_M0/GPIO0_B5_D, P30 I2S1_SDI0_M1/GPU_AVS/UART0_TX_M0/I2C4_SCL_M2/DP1_HPDIN_M1/PWM4_M0/PCIE30X1_0_PERSTN_M0/GPIO0_C5_U, R27 PMUIO2_1V8, R29 I2S1_SCLK_TX_M1/JTAG_TMS_M2/I2C1_SDA_M0/UART_2_RX_M0/PCIE30X1_1_WAKEN_M0/GPIO0_B6_D, R30 I2S1_LRCK_RX_M1/PDM0_CLK1_M1/PWM2_M0/UART0__RX_M0/I2C4_SDA_M2/DP0_HPDIN_M1/PCIE30X1_0_WA_KEN_M0/GPIO, T28 I2S1_LRCK_TX_M1/PWM0_M0/I2C2_SCL_M0/CAN0_TX__M0/SPI0_CS1_M0/PCIE30X1_1_PERSTN_M0/GPIO0_B7__D, T29 I2S1_SDI1_M1/NPU_AVS/UART0_RTSN/PWM5_M1/SPI0__CLK_M0/PCIE30X4_CLKREQN_M0/SATA_CP_POD/GPIO_0_C6_U, T30 PMIC_SLEEP5/GPIO0_C3_D, T31 I2S1_SCLK_RX_M1/PDM0_CLK0_M1/PWM1_M0/I2C2_S_DA_M0/CAN0_RX_M0/SPI0_MOSI_M0/PCIE30X1_0_CLKREQN_M0/GPIO, T32 PMIC_SLEEP4/GPIO0_C2_D, U32 PMIC_SLEEP3/GPIO0_C1_D, U33 LITCPU_AVS/SPI3_CLK_M2/GPIO0_D3_U, V28 I2S1_SDO3_M1/CPU_BIG1_AVS/I2C1_SDA_M2/CAN2_T_X_M1/HDMI_TX0_SCL_M1/SPI3_CS1_M2/SATA_MP_SWI_TCH/GPIO0_, V29 I2S1_SDO2_M1/PDM0_SDI2_M1/PWM3_IR_M0/I2C1_SC_L_M2/CAN2_RX_M1/HDMI_TX0_SDA_M1/SPI3_CS0_M2/_PCIE30X2_P, V31 I2S1_SDI2_M1/PDM0_SDI0_M1/I2C6_SDA_M0/UART1__RTSN_M2/PWM6_M0/SPI0_MISO_M0/PCIE30X4_WAKEN__M0/GPIO0_C, W28 PMIC_SLEEP6/PDM0_SDI3_M1/GPIO0_D6_D, W29 I2S1_SDO1_M1/I2C0_SDA_M2/UART1_RX_M2/HDMI_R_X_SCL_M0/SPI3_MOSI_M2/PCIE30X2_WAKEN_M0/HDMI__TX1_CEC_M1, W30 I2S1_SDO0_M1/CPU_BIG0_AVS/I2C0_SCL_M2/UART0__CTSN/UART1_TX_M2/HDMI_RX_SDA_M0/SPI0_CS0_M0/_PCIE30X2_C, W31 I2S1_SDI3_M1/PDM0_SDI1_M1/I2C6_SCL_M0/UART1_C_TSN_M2/PWM7_IR_M0/SPI3_MISO_M2/PCIE30X4_PERS_TN_M0/GPI
part F pins: AA1 DDR_CH0_DQ14_A, AA2 DDR_CH0_DQ15_A, AA4 DDR_CH0_DQS1A_N, AA5 DDR_CH0_DQS1A_P, AB1 DDR_CH0_DQ9_A, AB2 DDR_CH0_DQ8_A, AB4 DDR_CH0_DM1_A, AC1 DDR_CH0_DQ10_A, AC2 DDR_CH0_DQ11_A, B1 DDR_CH0_DQ11_B, C1 DDR_CH0_DQ9_B, C2 DDR_CH0_DQ10_B, D1 DDR_CH0_DQ15_B, D2 DDR_CH0_DQ8_B, E1 DDR_CH0_DQ13_B, E2 DDR_CH0_DQ14_B, E4 DDR_CH0_DM1_B, F1 DDR_CH0_DQ4_B, F2 DDR_CH0_DQ12_B, F4 DDR_CH0_DQS1B_N, F5 DDR_CH0_DQS1B_P, G1 DDR_CH0_DQ6_B, G2 DDR_CH0_DQ5_B, G4 DDR_CH0_DM0_B, H1 DDR_CH0_DQ0_B, H2 DDR_CH0_DQ7_B, H4 DDR_CH0_WCK1P_B, H5 DDR_CH0_WCK1N_B, H7 DDR_CH0_ZQ_B, J1 DDR_CH0_DQ2_B, J2 DDR_CH0_DQ1_B, J7 DDR_CH0_DQS0B_N, J8 DDR_CH0_DQS0B_P, K1 DDR_CH0_A4_B, K2 DDR_CH0_DQ3_B, K4 DDR_CH0_WCK0N_B, K5 DDR_CH0_WCK0P_B, K7 DDR_CH0_RESET_B, L2 DDR_CH0_A5_B, L4 DDR_CH0_LP4/4X_CKE1/LP5_CS1_B, L5 DDR_CH0_LP4/4X_CKE0/LP5_CS0_B, L7 DDR_CH0_LP4/4X_CS0_B, L8 DDR_CH0_LP4/4X_CS1_B, L10 DDR_CH0_VDDQ_CK, M1 DDR_CH0_CKB_B, M2 DDR_CH0_CK_B, M5 DDR_CH0_A1_B, M7 DDR_CH0_A6_B, M8 DDR_CH0_A0_B, M10 DDR_CH0_VDDQ_0, M11 DDR_CH0_PLL_AVSS, M12 DDR_CH0_PLL_AVDD1V8, N1 DDR_CH0_CKB_A, N2 DDR_CH0_CK_A, N4 DDR_CH0_A3_B, N5 DDR_CH0_A2_B, N7 DDR_CH0_LP4/4X_CKE1/LP5_CS1_A, N8 DDR_CH0_VDDQ_CKE, N10 DDR_CH0_VDDQ_1, N12 DDR_CH0_PLL_DVDD, N13 DDR_CH0_VDD_MIF_0, P2 DDR_CH0_A5_A, P4 DDR_CH0_A2_A, P5 DDR_CH0_A3_A, P7 DDR_CH0_LP4/4X_CKE0/LP5_CS0_A, P10 DDR_CH0_VDDQ_2, P12 DDR_CH0_VDD_3, P13 DDR_CH0_VDD_MIF_1, R1 DDR_CH0_A4_A, R2 DDR_CH0_DQ3_A, R6 DDR_CH0_LP4/4X_CS0_A, R7 DDR_CH0_LP4/4X_CS1_A, R10 DDR_CH0_VDDQ_3, R12 DDR_CH0_VDD_2, T1 DDR_CH0_DQ2_A, T2 DDR_CH0_DQ1_A, T4 DDR_CH0_RESET_A, T5 DDR_CH0_A6_A, T7 DDR_CH0_A0_A, T8 DDR_CH0_A1_A, T10 DDR_CH0_VDDQ_4, T12 DDR_CH0_VDD_1, U1 DDR_CH0_DQ0_A, U2 DDR_CH0_DQ7_A, U4 DDR_CH0_DQS0A_N, U5 DDR_CH0_DQS0A_P, U11 DDR_CH0_VDD_0, V1 DDR_CH0_DQ6_A, V2 DDR_CH0_DQ5_A, V6 DDR_CH0_WCK0N_A, V7 DDR_CH0_WCK0P_A, W1 DDR_CH0_DQ4_A, W4 DDR_CH0_WCK1P_A, W5 DDR_CH0_WCK1N_A, W8 DDR_CH0_ZQ_A, Y1 DDR_CH0_DQ12_A, Y2 DDR_CH0_DQ13_A, Y4 DDR_CH0_DM0_A
part G pins: A2 DDR_CH1_DQ10_C, A3 DDR_CH1_DQ8_C, A4 DDR_CH1_DQ14_C, A5 DDR_CH1_DQ12_C, A6 DDR_CH1_DQ4_C, A7 DDR_CH1_DQ6_C, A8 DDR_CH1_DQ0_C, A9 DDR_CH1_DQ2_C, A10 DDR_CH1_A4_C, A12 DDR_CH1_CKB_C, A13 DDR_CH1_CKB_D, A15 DDR_CH1_A4_D, A16 DDR_CH1_DQ2_D, A17 DDR_CH1_DQ0_D, A18 DDR_CH1_DQ6_D, A19 DDR_CH1_DQ4_D, A20 DDR_CH1_DQ12_D, A21 DDR_CH1_DQ14_D, A22 DDR_CH1_DQ8_D, A23 DDR_CH1_DQ10_D, B2 DDR_CH1_DQ11_C, B3 DDR_CH1_DQ9_C, B4 DDR_CH1_DQ15_C, B5 DDR_CH1_DQ13_C, B7 DDR_CH1_DQ5_C, B8 DDR_CH1_DQ7_C, B9 DDR_CH1_DQ1_C, B10 DDR_CH1_DQ3_C, B11 DDR_CH1_A5_C, B12 DDR_CH1_CK_C, B13 DDR_CH1_CK_D, B14 DDR_CH1_A5_D, B15 DDR_CH1_DQ3_D, B16 DDR_CH1_DQ1_D, B17 DDR_CH1_DQ7_D, B18 DDR_CH1_DQ5_D, B20 DDR_CH1_DQ13_D, B21 DDR_CH1_DQ15_D, B22 DDR_CH1_DQ9_D, B23 DDR_CH1_DQ11_D, C19 DDR_CH1_RESET_D, D4 DDR_CH1_DM1_C, D5 DDR_CH1_DQS1C_N, D7 DDR_CH1_WCK1P_C, D9 DDR_CH1_DQS0C_N, D10 DDR_CH1_A6_C, D11 DDR_CH1_LP4/4X_CKE0/LP5_CS0_C, D13 DDR_CH1_A3_C, D14 DDR_CH1_A6_D, D16 DDR_CH1_LP4/4X_CKE0/LP5_CS0_D, D17 DDR_CH1_WCK0N_D, D19 DDR_CH1_LP4/4X_CS1_D, D20 DDR_CH1_DM0_D, D21 DDR_CH1_DQS1D_P, D22 DDR_CH1_DM1_D, E5 DDR_CH1_DQS1C_P, E7 DDR_CH1_WCK1N_C, E9 DDR_CH1_DQS0C_P, E10 DDR_CH1_RESET_C, E11 DDR_CH1_LP4/4X_CKE1/LP5_CS1_C, E13 DDR_CH1_A2_C, E14 DDR_CH1_A3_D, E16 DDR_CH1_LP4/4X_CKE1/LP5_CS1_D, E17 DDR_CH1_WCK0P_D, E19 DDR_CH1_LP4/4X_CS0_D, E21 DDR_CH1_DQS1D_N, F8 DDR_CH1_DM0_C, F12 DDR_CH1_A1_C, F18 DDR_CH1_ZQ_D, G8 DDR_CH1_ZQ_C, G9 DDR_CH1_WCK0P_C, G11 DDR_CH1_LP4/4X_CS0_C, G12 DDR_CH1_A0_C, G13 DDR_CH1_A2_D, G14 DDR_CH1_A1_D, G16 DDR_CH1_DQS0D_N, G18 DDR_CH1_WCK1N_D, H9 DDR_CH1_WCK0N_C, H11 DDR_CH1_LP4/4X_CS1_C, H13 DDR_CH1_VDDQ_CKE, H15 DDR_CH1_A0_D, H16 DDR_CH1_DQS0D_P, H18 DDR_CH1_WCK1P_D, K11 DDR_CH1_VDDQ_0, K12 DDR_CH1_VDDQ_1, K13 DDR_CH1_VDDQ_2, K14 DDR_CH1_VDDQ_3, K15 DDR_CH1_VDDQ_4, K16 DDR_CH1_PLL_AVDD1V8, L11 DDR_CH1_VDD_0, L12 DDR_CH1_VDD_1, L13 DDR_CH1_VDD_2, L14 DDR_CH1_VDD_3, L15 DDR_CH1_PLL_DVDD, L16 DDR_CH1_PLL_AVSS, L17 DDR_CH1_VDD_MIF_0, L18 DDR_CH1_VDD_MIF_1, M13 DDR_CH1_VDDQ_CK
part H pins: AA32 EMMC_D5/I2C1_SDA_M3/UART5_TX_M2/GPIO2_D5_U, AA33 EMMC_D3/FSPI_D3_M0/GPIO2_D3_U, AA34 EMMC_RSTN/I2C2_SCL_M2/UART5_RTSN_M1/GPIO2_A3_D, V26 EMMCIO_1V8, V32 EMMC_D2/FSPI_D2_M0/GPIO2_D2_U, V33 EMMC_D7/FSPI_CS1N_M0/GPIO2_D7_U, V34 EMMC_CLKOUT/GPIO2_A1_D, W32 EMMC_D6/FSPI_CS0N_M0/GPIO2_D6_U, W33 EMMC_D1/FSPI_D1_M0/GPIO2_D1_U, W34 EMMC_CMD/FSPI_CLK_M0/GPIO2_A0_U, Y32 EMMC_D4/I2C1_SCL_M3/UART5_RX_M2/GPIO2_D4_U, Y33 EMMC_D0/FSPI_D0_M0/GPIO2_D0_U, Y34 EMMC_DATA_STROBE/I2C2_SDA_M2/UART5_CTSN_M1/_GPIO2_A2_D
part I pins: AA7 VCCIO2_1V8, AD1 SDMMC_D1/PDM1_SDI2_M0/JTAG_TMS_M1/I2C3_SDA_M4/UA_RT2_RX_M1/PWM9_M1/GPIO4_D1_U, AD2 SDMMC_D0/PDM1_SDI3_M0/JTAG_TCK_M1/I2C3_SCL_M4/UA_RT2_TX_M1/PWM8_M1/GPIO4_D0_U, AE1 SDMMC_CLK/PDM1_CLK0_M0/TEST_CLKOUT_M0/MCU_JTAG_T_MS_M0/CAN0_RX_M1/UART5_TX_M0/GPIO4_D5_D, AE2 SDMMC_CMD/PDM1_CLK1_M0/MCU_JTAG_TCK_M0/CAN0_TX__M1/UART5_RX_M0/PWM7_IR_M1/GPIO4_D4_U, AF1 SDMMC_D3/PDM1_SDI0_M0/JTAG_TMS_M0/I2C8_SDA_M0/UA_RT5_RTSN_M0/PWM10_M1/GPIO4_D3_U, AF2 SDMMC_D2/PDM1_SDI1_M0/JTAG_TCK_M0/I2C8_SCL_M0/UA_RT5_CTSN_M0/GPIO4_D2_U, Y7 VCCIO2
part J pins: AG13 TYPEC1_DP1_VDDH_1V8, AG14 TYPEC0_DP0_VDDH_1V8, AG16 TYPEC1_DP1_REXT, AH13 TYPEC1_DP1_VDD_0V85, AH14 TYPEC0_DP0_VDDA_0V85, AH16 TYPEC0_DP0_REXT, AJ13 TYPEC1_DP1_VDDA_0V85, AJ14 TYPEC0_DP0_VDD_0V85, AL10 TYPEC1_SBU1/DP1_AUXP, AL15 TYPEC0_SBU1/DP0_AUXP, AM10 TYPEC1_SBU2/DP1_AUXN, AM15 TYPEC0_SBU2/DP0_AUXN, AN8 TYPEC1_SSRX1P/DP1_TX0P, AN9 TYPEC1_SSTX1N/DP1_TX1N, AN10 TYPEC1_SSRX2P/DP1_TX2P, AN11 TYPEC1_SSTX2N/DP1_TX3N, AN13 TYPEC0_SSRX1P/DP0_TX0P, AN14 TYPEC0_SSTX1N/DP0_TX1N, AN15 TYPEC0_SSRX2P/DP0_TX2P, AN16 TYPEC0_SSTX2N/DP0_TX3N, AP8 TYPEC1_SSRX1N/DP1_TX0N, AP9 TYPEC1_SSTX1P/DP1_TX1P, AP10 TYPEC1_SSRX2N/DP1_TX2N, AP11 TYPEC1_SSTX2P/DP1_TX3P, AP13 TYPEC0_SSRX1N/DP0_TX0N, AP14 TYPEC0_SSTX1P/DP0_TX1P, AP15 TYPEC0_SSRX2N/DP0_TX2N, AP16 TYPEC0_SSTX2P/DP0_TX3P
part K pins: AG9 USB20_HOST0_REXT, AG11 USB20_AVDD_1V8, AH9 USB20_HOST1_REXT, AH10 USB20_DVDD_0V75, AJ10 USB20_AVDD_3V3, AK6 USB20_HOST0_DP, AK8 TYPEC1_USB20_OTG_ID, AK9 TYPEC1_USB20_OTG_DP, AL6 USB20_HOST0_DM, AL7 USB20_HOST1_DP, AL8 TYPEC1_USB20_VBUSDET, AL9 TYPEC1_USB20_OTG_DM, AL12 TYPEC0_USB20_OTG_DP, AL14 TYPEC0_USB20_OTG_ID, AM7 USB20_HOST1_DM, AM12 TYPEC0_USB20_OTG_DM, AM14 TYPEC0_USB20_VBUSDET, AP7 TYPEC1_USB20_OTG1_REXT, AP12 TYPEC0_USB20_OTG0_REXT
part L pins: D28 I2S0_SDI0/GPIO1_D4_D, D29 I2S0_LRCK_RX/PDM0_CLK0_M0/I2C4_SDA_M4/PWM15_IR_M2/6_D, D30 I2S0_LRCK_TX/I2C2_SCL_M3/UART4_RTSN/5_D, E28 I2S0_SDI1/PDM0_SDI3_M0/I2C1_SDA_M4/UART4_RX__M0/PWM1_M1/SPI1_CS0_M2/GPIO1_D3_D, E29 I2S0_SDO0/I2C4_SCL_M4/UART4_CTSN/7_D, E30 I2S0_SCLK_RX/PDM0_CLK1_M0/I2C2_SDA_M3/PWM11__IR_M2/SPI4_CS1_M0/4_D, E31 I2S0_SCLK_TX/I2C6_SCL_M1/UART3_CTSN/PWM7_IR__M2/SPI4_CS0_M0/3_D, F26 I2S0_SDO1/I2C7_SCL_M0/UART6_TX_M2/SPI1_MISO__M2/GPIO1_D0_D, F27 I2S0_SDO2/I2S0_SDI3/PDM0_SDI1_M0/I2C7_SDA_M0/_UART6_RX_M2/SPI1_MOSI_M2/GPIO1_D1_D, F28 I2S0_SDO3/I2S0_SDI2/PDM0_SDI2_M0/I2C1_SCL_M4/_UART4_TX_M0/PWM0_M1/SPI1_CLK_M2/GPIO1_D2_D, F30 I2S0_MCLK/I2C6_SDA_M1/UART3_RTSN/PWM3_IR_M2/_SPI4_CLK_M0/2__D, G20 VCCIO1_1V8, G26 PDM0_SDI0_M0/SPI1_CS1_M2/GPIO1_D5_D, G27 I2C3_SCL_M0/UART3_TX_M0/SPI4_MOSI_M0/1__Z, G29 I2C3_SDA_M0/UART3_RX_M0/SPI4_MISO_M0/_0_Z
part M pins: AD3 OTP_VDDOTP_0V75, AD4 OTP_VPP, AF18 TSADC_TEST_OUT_TS, AH18 SARADC_AVDD_1V8, AK15 SARADC_IN5, AK16 SARADC_IN2, AK17 SARADC_IN7, AL16 SARADC_IN1, AL17 SARADC_IN6, AM16 SARADC_IN0_BOOT, AM17 SARADC_IN4, AN17 SARADC_IN3
part N pins: AB30 GMAC0_PPSTRING/FSPI_CS1N_M1/HDMI_TX1_SCL_M0/I2C4__SCL_M1/UART7_TX_M0/GPIO2_B5_U, AB31 GMAC0_PTP_REFCLK/FSPI_CS0N_M1/HDMI_TX1_SDA_M0/I2C_4_SDA_M1/UART7_RX_M0/GPIO2_B4_U, AB33 GMAC0_MDIO/I2C0_SCL_M1/UART9_CTSN_M0/PWM6_M2/SPI_3_MOSI_M0/GPIO4_C5_D, AB34 GMAC0_MDC/I2C7_SDA_M1/UART9_RTSN_M0/PWM5_M2/SPI3__MISO_M0/GPIO4_C4_D, AC30 GMAC0_PPSCLK/TEST_CLKOUT_M1/HDMI_TX1_CEC_M0/UART_9_RX_M0/SPI1_CS1_M0/GPIO2_C4_D, AC31 GMAC0_RXD3/SDIO_D1_M0/FSPI_D1_M1/UART6_TX_M0/GPIO2_A7_U, AC32 GMAC0_RXD2/SDIO_D0_M0/FSPI_D0_M1/UART6_RX_M0/GPIO2_A6_U, AC33 GMAC0_TXD2/SDIO_D3_M0/FSPI_D3_M1/I2C8_SDA_M1/UART_6_CTSN_M0/GPIO2_B1_U, AC34 GMAC0_TXD3/SDIO_CMD_M0/I2C3_SCL_M3/GPIO2_B2_U, AD30 ETH0_REFCLKO_25M/I2S2_SDI_M0/I2C6_SCL_M2/SPI1_CS0__M0/GPIO2_C3_D, AD31 GMAC0_RXD1/I2S2_LRCK_RX_M0/I2C6_SDA_M2/UART9_TX__M0/SPI1_MOSI_M0/GPIO2_C2_D, AD32 GMAC0_RXD0/I2S2_SCLK_RX_M0/I2C2_SCL_M1/UART1_CTSN__M0/SPI1_MISO_M0/GPIO2_C1_D, AD33 GMAC0_TXD0/I2S2_MCLK_M0/I2C5_SCL_M4/UART1_RX_M0/G_PIO2_B6_D, AD34 GMAC0_TXD1/I2S2_SCLK_TX_M0/I2C5_SDA_M4/UART1_TX_M_0/GPIO2_B7_D, AE30 CLK32K_OUT1/GPIO2_C5_D, AE31 GMAC0_RXDV_CRS/UART7_RTSN_M0/PWM2_M2/SPI3_CS0_M_0/GPIO4_C2_D, AE32 GMAC0_RXCLK/SDIO_D2_M0/FSPI_D2_M1/I2C8_SCL_M1/UAR_T6_RTSN_M0/GPIO2_B0_U, AE33 GMAC0_TXCLK/SDIO_CLK_M0/FSPI_CLK_M1/I2C3_SDA_M3/G_PIO2_B3_D, AE34 GMAC0_TXEN/I2S2_LRCK_TX_M0/I2C2_SDA_M1/UART1_RTSN__M0/SPI1_CLK_M0/GPIO2_C0_D, AF33 GMAC0_TXER/I2C0_SDA_M1/UART7_CTSN_M0/PWM7_IR_M3/_SPI3_CLK_M0/GPIO4_C6_D, AF34 GMAC0_MCLKINOUT/I2S2_SDO_M0/I2C7_SCL_M1/PWM4_M1/_SPI3_CS1_M0/GPIO4_C3_D, Y26 VCCIO3_1V8
part O pins: AF20 MIPI_D/C_PHY0_VREG, AG20 MIPI_D/C_PHY0_VDD, AH20 MIPI_D/C_PHY0_VDD_1V2, AJ20 MIPI_D/C_PHY0_VDD_1V8, AN24 MIPI_DPHY0_TX_D0P/MIPI_CPHY0_TX_TRIO0_B, AN25 MIPI_DPHY0_TX_D1P/MIPI_CPHY0_TX_TRIO1_A, AN26 MIPI_DPHY0_TX_CLKP/MIPI_CPHY0_TX_TRIO1_C, AN27 MIPI_DPHY0_TX_D2P/MIPI_CPHY0_TX_TRIO2_B, AN28 MIPI_DPHY0_TX_D3P/NO_USE, AN29 MIPI_DPHY0_RX_D0P/MIPI_CPHY0_RX_TRIO0_B, AN30 MIPI_DPHY0_RX_D1P/MIPI_CPHY0_RX_TRIO1_A, AN32 MIPI_DPHY0_RX_CLKP/MIPI_CPHY0_RX_TRIO1_C, AN33 MIPI_DPHY0_RX_D2P/MIPI_CPHY0_RX_TRIO2_B, AN34 MIPI_DPHY0_RX_D3P/NO_USE, AP24 MIPI_DPHY0_TX_D0N/MIPI_CPHY0_TX_TRIO0_A, AP25 MIPI_DPHY0_TX_D1N/MIPI_CPHY0_TX_TRIO0_C, AP26 MIPI_DPHY0_TX_CLKN/MIPI_CPHY0_TX_TRIO1_B, AP27 MIPI_DPHY0_TX_D2N/MIPI_CPHY0_TX_TRIO2_A, AP28 MIPI_DPHY0_TX_D3N/MIPI_CPHY0_TX_TRIO2_C, AP29 MIPI_DPHY0_RX_D0N/MIPI_CPHY0_RX_TRIO0_A, AP30 MIPI_DPHY0_RX_D1N/MIPI_CPHY0_RX_TRIO0_C, AP31 MIPI_DPHY0_RX_CLKN/MIPI_CPHY0_RX_TRIO1_B, AP32 MIPI_DPHY0_RX_D2N/MIPI_CPHY0_RX_TRIO2_A, AP33 MIPI_DPHY0_RX_D3N/MIPI_CPHY0_RX_TRIO2_C
part P pins: AF19 MIPI_D/C_PHY1_VREG, AG19 MIPI_D/C_PHY1_VDD, AH19 MIPI_D/C_PHY1_VDD_1V2, AJ19 MIPI_D/C_PHY1_VDD_1V8, AK18 MIPI_DPHY1_RX_D0P/MIPI_CPHY1_RX_TRIO0_B, AK19 MIPI_DPHY1_RX_D1P/MIPI_CPHY1_RX_TRIO1_A, AK20 MIPI_DPHY1_RX_CLKP/MIPI_CPHY1_RX_TRIO1_C, AK21 MIPI_DPHY1_RX_D2P/MIPI_CPHY1_RX_TRIO2_B, AK22 MIPI_DPHY1_RX_D3P/NO_USE, AL18 MIPI_DPHY1_RX_D0N/MIPI_CPHY1_RX_TRIO0_A, AL19 MIPI_DPHY1_RX_D1N/MIPI_CPHY1_RX_TRIO0_C, AL20 MIPI_DPHY1_RX_CLKN/MIPI_CPHY1_RX_TRIO1_B, AL21 MIPI_DPHY1_RX_D2N/MIPI_CPHY1_RX_TRIO2_A, AL22 MIPI_DPHY1_RX_D3N/MIPI_CPHY1_RX_TRIO2_C, AN18 MIPI_DPHY1_TX_D0P/MIPI_CPHY1_TX_TRIO0_B, AN19 MIPI_DPHY1_TX_D1P/MIPI_CPHY1_TX_TRIO1_A, AN20 MIPI_DPHY1_TX_CLKP/MIPI_CPHY1_TX_TRIO1_C, AN21 MIPI_DPHY1_TX_D2P/MIPI_CPHY1_TX_TRIO2_B, AN22 MIPI_DPHY1_TX_D3P/NO_USE, AP18 MIPI_DPHY1_TX_D0N/MIPI_CPHY1_TX_TRIO0_A, AP19 MIPI_DPHY1_TX_D1N/MIPI_CPHY1_TX_TRIO0_C, AP20 MIPI_DPHY1_TX_CLKN/MIPI_CPHY1_TX_TRIO1_B, AP21 MIPI_DPHY1_TX_D2N/MIPI_CPHY1_TX_TRIO2_A, AP22 MIPI_DPHY1_TX_D3N/MIPI_CPHY1_TX_TRIO2_C
part Q pins: AA25 MIPI_CSI1_AVCC0V75, AA26 MIPI_CSI1_AVCC1V8, AB25 MIPI_CSI0_AVCC0V75, AB26 MIPI_CSI0_AVCC1V8, AG31 MIPI_CSI1_D0P, AG32 MIPI_CSI1_D0N, AG33 MIPI_CSI0_D0P, AG34 MIPI_CSI0_D0N, AH31 MIPI_CSI1_D1P, AH32 MIPI_CSI1_D1N, AH33 MIPI_CSI0_D1P, AH34 MIPI_CSI0_D1N, AJ31 MIPI_CSI1_CLK0P, AJ32 MIPI_CSI1_CLK0N, AJ33 MIPI_CSI0_CLK0P, AJ34 MIPI_CSI0_CLK0N, AK31 MIPI_CSI1_D2P, AK32 MIPI_CSI1_D2N, AK33 MIPI_CSI0_D2P, AK34 MIPI_CSI0_D2N, AL31 MIPI_CSI1_D3P, AL32 MIPI_CSI1_D3N, AL33 MIPI_CSI0_D3P, AL34 MIPI_CSI0_D3N, AM31 MIPI_CSI1_CLK1P, AM32 MIPI_CSI1_CLK1N, AM33 MIPI_CSI0_CLK1P, AM34 MIPI_CSI0_CLK1N
part R pins: AA9 HDMI/EDP_TX0_VDD_0V75, AB9 HDMI/EDP_TX0_AVDD_0V75, AC6 HDMI/EDP_TX0_VDD_CMN_1V8, AC7 HDMI/EDP_TX0_VDD_IO_1V8, AC9 HDMI/EDP_TX1_AVDD_0V75, AD6 HDMI/EDP_TX1_VDD_CMN_1V8, AD7 HDMI/EDP_TX1_VDD_IO_1V8, AD9 HDMI/EDP_TX1_VDD_0V75, AG1 HDMI_TX0_SBDN/EDP_TX0_AUXN, AG2 HDMI_TX0_SBDP/EDP_TX0_AUXP, AH2 HDMI_TX0_D3N/EDP_TX0_D3N, AH3 HDMI_TX0_D3P/EDP_TX0_D3P, AJ1 HDMI_TX0_D0N/EDP_TX0_D0N, AJ2 HDMI_TX0_D0P/EDP_TX0_D0P, AK2 HDMI_TX0_D1N/EDP_TX0_D1N, AK3 HDMI_TX0_D1P/EDP_TX0_D1P, AL1 HDMI_TX0_D2N/EDP_TX0_D2N, AL2 HDMI_TX0_D2P/EDP_TX0_D2P, AM2 HDMI/EDP_TX0_REXT, AM3 HDMI_TX1_D3P/EDP_TX1_D3P, AM5 HDMI_TX1_D1P/EDP_TX1_D1P, AN1 HDMI/EDP_TX1_REXT, AN2 HDMI_TX1_SBDP/EDP_TX1_AUXP, AN3 HDMI_TX1_D3N/EDP_TX1_D3N, AN4 HDMI_TX1_D0P/EDP_TX1_D0P, AN5 HDMI_TX1_D1N/EDP_TX1_D1N, AN6 HDMI_TX1_D2P/EDP_TX1_D2P, AP2 HDMI_TX1_SBDN/EDP_TX1_AUXN, AP4 HDMI_TX1_D0N/EDP_TX1_D0N, AP6 HDMI_TX1_D2N/EDP_TX1_D2N
part S pins: AE4 HDMI_RX_VPH3V3, AE5 HDMI_RX_DVDD3V3, AE8 HDMI_RX_AVDD0V75, AF3 HDMI_RX_REXT, AF5 HDMI_RX_CLKN, AF6 HDMI_RX_CLKP, AG4 HDMI_RX_D0N, AG5 HDMI_RX_D0P, AH5 HDMI_RX_D1N, AH6 HDMI_RX_D1P, AJ4 HDMI_RX_D2N, AJ5 HDMI_RX_D2P
part T pins: G30 PCIE20_2_REFCLKN, G31 PCIE20_2_REFCLKP, H29 PCIE20_2_TXN/SATA30_2_TXN/USB30_SSTXN, H30 PCIE20_2_TXP/SATA30_2_TXP/USB30_SSTXP, H32 PCIE20_1_REFCLKP, H33 PCIE20_1_REFCLKN, J30 PCIE20_2_RXN/SATA30_2_RXN/USB30_SSRXN, J31 PCIE20_2_RXP/SATA30_2_RXP/USB30_SSRXP, J33 PCIE20_1_RXP/SATA30_1_RXP, J34 PCIE20_1_RXN/SATA30_1_RXN, K27 PCIE20_SATA30_USB30_2_AVDD_1V8, K28 PCIE20_SATA30_USB30_2_AVDD_0V85, K33 PCIE20_1_TXP/SATA30_1_TXP, K34 PCIE20_1_TXN/SATA30_1_TXN, L27 PCIE20_SATA30_1_AVDD_1V8, L28 PCIE20_SATA30_1_AVDD_0V85, L32 PCIE20_0_REFCLKP, L33 PCIE20_0_REFCLKN, M27 PCIE20_SATA30_0_AVDD_1V8, M28 PCIE20_SATA30_0_AVDD_0V85, M33 PCIE20_0_TXN/SATA30_0_TXN, M34 PCIE20_0_TXP/SATA30_0_TXP, N33 PCIE20_0_RXP/SATA30_0_RXP, N34 PCIE20_0_RXN/SATA30_0_RXN
part U pins: A28 PCIE30_PORT1_REF_CLKP, A30 PCIE30_PORT1_TX0N, A32 PCIE30_PORT1_RX0N, A33 PCIE30_PORT1_RESREF, B28 PCIE30_PORT1_REF_CLKN, B29 PCIE30_PORT1_TX1N, B30 PCIE30_PORT1_TX0P, B31 PCIE30_PORT1_RX1N, B32 PCIE30_PORT1_RX0P, B34 PCIE30_PORT0_RESREF, C29 PCIE30_PORT1_TX1P, C31 PCIE30_PORT1_RX1P, C33 PCIE30_PORT0_TX1P, C34 PCIE30_PORT0_TX1N, D32 PCIE30_PORT0_TX0P, D33 PCIE30_PORT0_TX0N, E33 PCIE30_PORT0_REF_CLKP, E34 PCIE30_PORT0_REF_CLKN, F32 PCIE30_PORT0_RX1P, F33 PCIE30_PORT0_RX1N, G23 PCIE30_PORT0_AVDD1V8, G24 PCIE30_PORT0_AVDD0V75, G33 PCIE30_PORT0_RX0P, G34 PCIE30_PORT0_RX0N, H23 PCIE30_PORT1_AVDD1V8, H24 PCIE30_PORT1_AVDD0V75
part V pins: AA27 HDMI_TX0_HPD_M1/PCIE30X2_PERSTN_M2/HDMI_RX_HPDIN__M1/MCU_JTAG_TCK_M1/UART9_RX_M2/SPI0_CS0_M3/GPIO3__D4_D, AA28 GMAC1_PTP_REF_CLK/HDMI_TX1_HPD_M1/I2C3_SCL_M1/SPI_1_MOSI_M1/GPIO3_B7_D, AA29 GMAC1_TXD2/SDIO_D0_M1/I2S3_MCLK/FSPI_D0_M2/I2C6_S_DA_M4/PWM10_M0/SPI4_MISO_M1/GPIO3_A0_U, AA30 GMAC1_TXD3/SDIO_D1_M1/I2S3_SCLK/AUDDSM_LN/FSPI_D1__M2/I2C6_SCL_M4/PWM11_IR_M0/SPI4_MOSI_M1/GPIO3_A1_, AB28 PCIE30X4_BUTTON_RSTN/DP1_HPDIN_M0/MCU_JTAG_TMS_M_1/UART9_TX_M2/PWM11_IR_M3/SPI0_CS1_M3/GPIO3_D5_D, AC28 GMAC1_TXD0/I2S2_SDO_M1/UART2_RTSN/GPIO3_B3_U, AC29 GMAC1_TXD1/I2S2_MCLK_M1/UART2_CTSN/GPIO3_B4_U, AD27 GMAC1_RXD2/SDIO_D2_M1/I2S3_LRCK/AUDDSM_LP/FSPI_D2__M2/UART8_TX_M1/SPI4_CLK_M1/GPIO3_A2_U, AD28 GMAC1_TXCLK/SDIO_CMD_M1/I2S3_SDI/AUDDSM_RP/UART8__RTSN_M1/SPI4_CS1_M1/GPIO3_A4_D, AD29 GMAC1_TXEN/I2S2_SCLK_TX_M1/CAN1_RX_M0/UART3_TX_M_1/PWM12_M0/GPIO3_B5_U, AE27 GMAC1_RXD3/SDIO_D3_M1/I2S3_SDO/AUDDSM_RN/FSPI_D3__M2/UART8_RX_M1/SPI4_CS0_M1/GPIO3_A3_U, AE28 GMAC1_TXER/I2S2_SDI_M1/UART2_RX_M2/PWM3_IR_M1/GPIO3_B2_D, AE29 GMAC1_MCLKINOUT/I2S2_LRCK_TX_M1/CAN1_TX_M0/UART3__RX_M1/PWM13_M0/GPIO3_B6_D, AG23 CIF_D13/PCIE20X1_2_PERSTN_M0/HDMI_RX_CEC_M1/UART4__TX_M1/PWM9_M2/SPI0_MISO_M3/GPIO3_D1_D, AG24 CIF_D15/PCIE30X2_WAKEN_M2/HDMI_RX_SDA_M1/I2C7_SDA__M2/UART9_CTSN_M2/PWM10_M2/SPI0_CLK_M3/GPIO3_D3__D, AG25 CIF_D14/PCIE30X2_CLKREQN_M2/HDMI_RX_SCL_M1/I2C7_S_CL_M2/UART9_RTSN_M2/SPI0_MOSI_M3/GPIO3_D2_D, AG26 CIF_D10/PCIE30X4_PERSTN_M2/HDMI_TX1_SCL_M1/SPI3_MI_SO_M3/GPIO3_C6_U, AG28 GMAC1_RXD1/I2S2_SCLK_RX_M1/MIPI_CAMERA3_CLK_M1/P_WM9_M0/GPIO3_B0_U, AG29 GMAC1_RXD0/MIPI_CAMERA2_CLK_M1/PWM8_M0/GPIO3_A7__U, AH24 CIF_D12/PCIE20X1_2_WAKEN_M0/HDMI_TX0_SDA_M2/I2C5__SDA_M0/UART4_RX_M1/PWM8_M2/SPI3_CLK_M3/GPIO3_D0__U, AH25 CIF_D9/FSPI_CS1N_M2/PCIE30X4_WAKEN_M2/HDMI_TX1_SDA_M1/CAN2_TX_M0/UART5_RX_M1/SPI3_CS1_M3/GPIO3_C5_U, AH26 CIF_D8/FSPI_CS0N_M2/PCIE30X4_CLKREQN_M2/HDMI_TX1_C_EC_M2/CAN2_RX_M0/UART5_TX_M1/SPI3_CS0_M3/GPIO3_C4, AH27 ETH1_REFCLKO_25M/MIPI_CAMERA1_CLK_M1/I2C4_SCL_M0/_GPIO3_A6_D, AH29 GMAC1_RXDV_CRS/I2S2_LRCK_RX_M1/MIPI_CAMERA4_CLK__M1/UART2_TX_M2/PWM2_M1/GPIO3_B1_D, AH30 GMAC1_RXCLK/SDIO_CLK_M1/MIPI_CAMERA0_CLK_M1/FSPI__CLK_M2/I2C4_SDA_M0/UART8_CTSN_M1/GPIO3_A5_D, AJ24 CIF_D11/PCIE20X1_2_CLKREQN_M0/HDMI_TX0_SCL_M2/I2C5__SCL_M0/SPI3_MOSI_M3/GPIO3_C7_U, W25 VCCIO5_1V8, W26 VCCIO5, Y27 GMAC1_PPSCLK/PCIE30X2_BUTTON_RSTN/UART7_RX__M1/SPI1_CLK_M1/GPIO3_C1_D, Y29 GMAC1_PPSTRIG/I2C3_SDA_M1/UART7_TX_M1/SPI1_M_ISO_M1/GPIO3_C0_D, Y30 GMAC1_MDIO/MIPI_TE1/I2C8_SDA_M4/UART7_CTSN_M_1/PWM15_IR_M0/SPI1_CS1_M1/GPIO3_C3_D, Y31 GMAC1_MDC/MIPI_TE0/I2C8_SCL_M4/UART7_RTSN_M1_/PWM14_M0/SPI1_CS0_M1/GPIO3_C2_D
part W pins: AC25 VCCIO6_1V8, AC26 VCCIO6, AJ25 BT1120_D14/PCIE20X1_2_WAKEN_M1/HDMI_TX0_SDA_M0/I2_C8_SCL_M3/SPI3_CS0_M1/GPIO4_C0_U, AJ26 BT1120_D11/PCIE30X4_WAKEN_M1/HDMI_RX_CEC_M0/SATA1__ACT_LED_M0/UART9_RX_M1/PWM12_M1/SPI3_MISO_M1/GPI_, AJ27 BT1120_D12/PCIE30X4_PERSTN_M1/HDMI_RX_HPDIN_M0/SA_TA0_ACT_LED_M0/I2C5_SCL_M1/PWM13_M1/SPI3_MOSI_M1/_, AJ28 BT1120_D13/PCIE20X1_2_CLKREQN_M1/HDMI_TX0_SCL_M0/I_2C5_SDA_M1/SPI3_CLK_M1/GPIO4_B7_U, AK24 BT1120_D15/SPDIF1_TX_M2/PCIE20X1_2_PERSTN_M1/HDMI__TX0_CEC_M0/I2C8_SDA_M3/PWM6_M1/SPI3_CS1_M1/GPIO4_, AK25 CIF_HREF/BT1120_D8/I2S1_SDO1_M0/PCIE30X1_1_BUTTON__RSTN/I2C7_SCL_M3/UART8_RTSN_M0/PWM14_M1/SPI0_CS0_, AK26 CIF_CLKIN/BT1120_CLKOUT/I2S1_SDI3_M0/PCIE30X2_PERST_N_M1/I2C6_SDA_M3/UART8_TX_M0/SPI2_CS1_M1/GPIO4_B0_D, AK27 CIF_D5/BT1120_D5/I2S1_SDI0_M0/PCIE30X1_0_PERSTN_M1/_I2C3_SDA_M2/UART3_TX_M2/SPI2_MOSI_M1/GPIO4_A5_D, AK30 CIF_D0/BT1120_D0/I2S1_MCLK_M0/PCIE30X1_1_CLKREQN_M_1/UART9_RTSN_M1/SPI0_MISO_M1/GPIO4_A0_D, AL24 MIPI_CAMERA0_CLK_M0/SPDIF1_TX_M1/I2S1_SDO0_M0/PCIE_30X1_0_BUTTON_RSTN/SATA2_ACT_LED_M0/I2C6_SCL_M3/U, AL26 CIF_CLKOUT/BT1120_D10/I2S1_SDO3_M0/PCIE30X4_CLKREQ_N_M1/DP0_HPDIN_M0/SPDIF0_TX_M1/UART9_TX_M1/PWM11_, AL27 CIF_D6/BT1120_D6/I2S1_SDI1_M0/PCIE30X2_CLKREQN_M1/I_2C5_SCL_M2/UART3_RX_M2/SPI2_CLK_M1/GPIO4_A6_D, AL28 CIF_D4/BT1120_D4/I2S1_LRCK_RX_M0/PCIE30X1_0_WAKEN__M1/I2C3_SCL_M2/UART0_RX_M2/SPI2_MISO_M1/GPIO4_A4_D, AL29 CIF_D3/BT1120_D3/I2S1_SCLK_RX_M0/PCIE30X1_0_CLKREQ_N_M1/UART0_TX_M2/GPIO4_A3_D, AL30 CIF_D1/BT1120_D1/I2S1_SCLK_TX_M0/PCIE30X1_1_WAKEN__M1/UART9_CTSN_M1/SPI0_MOSI_M1/GPIO4_A1_D, AM25 CIF_VSYNC/BT1120_D9/I2S1_SDO2_M0/PCIE20X1_2_BUTTON__RSTN/I2C7_SDA_M3/UART8_CTSN_M0/PWM15_IR_M1/CAN1_, AM27 CIF_D7/BT1120_D7/I2S1_SDI2_M0/PCIE30X2_WAKEN_M1/I2_C5_SDA_M2/SPI2_CS0_M1/GPIO4_A7_D, AM29 CIF_D2/BT1120_D2/I2S1_LRCK_TX_M0/PCIE30X1_1_PERSTN__M1/SPI0_CLK_M1/GPIO4_A2_D
part X pins: A24 PCIE30X1_1_CLKREQN_M2/DP0_HPDIN_M2/I2C2_SDA_M4/UART6_RX_M1/SPI4_MISO_M2/GPIO1_A0_D, A25 PCIE30X1_1_WAKEN_M2/DP1_HPDIN_M2/SATA1_ACT_LED_M_1/I2C2_SCL_M4/UART6_TX_M1/SPI4_MOSI_M2/GPIO1_A1_D, A26 VOP_POST_EMPTY/I2C4_SDA_M3/UART6_RTSN_M1/PWM0_M2_/SPI4_CLK_M2/GPIO1_A2_D, A27 HDMI_TX1_SDA_M2/I2C4_SCL_M3/UART6_CTSN_M1/PWM1_M_2/SPI4_CS0_M2/GPIO1_A3_D, B25 HDMI_TX1_SCL_M2/SPI2_MISO_M0/GPIO1_A4_D, B26 HDMI_TX0_HPD_M0/SPI2_MOSI_M0/GPIO1_A5_D, C24 HDMI_TX1_HPD_M0/SPI2_CLK_M0/GPIO1_A6_D, C25 PDM1_SDI0_M1/PCIE30X1_1_PERSTN_M2/PWM3_IR_M3/SPI2__CS0_M0/GPIO1_A7_U, C27 PDM1_SDI1_M1/PCIE30X4_CLKREQN_M3/SPI2_CS1_M0/GPIO_1_B0_U, D25 PDM1_SDI2_M1/PCIE30X4_WAKEN_M3/SPI0_MISO_M2/_GPIO1_B1_D, D26 PDM1_SDI3_M1/PCIE30X4_PERSTN_M3/UART4_RX_M2/_SPI0_MOSI_M2/GPIO1_B2_D, D27 PDM1_CLK1_M1/PCIE30X1_0_WAKEN_M2/SATA0_ACT_L_ED_M1/UART4_TX_M2/SPI0_CLK_M2/GPIO1_B3_D, E24 PDM1_CLK0_M1/PCIE30X1_0_PERSTN_M2/UART7_RX_M_2/SPI0_CS0_M2/GPIO1_B4_U, E25 PCIE30X1_0_CLKREQN_M2/UART7_TX_M2/SPI0_CS1_M_2/GPIO1_B5_U, E26 MIPI_CAMERA1_CLK_M0/SPDIF0_TX_M0/PCIE30X2_WA_KEN_M3/HDMI_RX_HPDIN_M2/I2C5_SCL_M3/UART1_TX__M1/GPIO1_, E27 MIPI_CAMERA2_CLK_M0/SPDIF1_TX_M0/PCIE30X2_PER_STN_M3/HDMI_RX_CEC_M2/SATA2_ACT_LED_M1/I2C5__SDA_M3/UA, F24 MIPI_CAMERA3_CLK_M0/HDMI_RX_SCL_M2/I2C8_SCL__M2/UART1_RTSN_M1/PWM14_M2/GPIO1_D6_U, F25 MIPI_CAMERA4_CLK_M0/PCIE30X2_CLKREQN_M3/HDMI__RX_SDA_M2/I2C8_SDA_M2/UART1_CTSN_M1/PWM15__IR_M3/GPIO1, H20 VCCIO4_1V8, H21 VCCIO4
part A text: RK3588_A(POWER)
part B text: RK3588_B(AVSS)
part C text: RK3588_C(GND)
part D text: RK3588_D(OSC/PLL/PMUIO1/2)
part E text: RK3588_E(PMUIO2)
part F text: RK3588_F(LDDR_1)
part G text: RK3588_G(LDDR_2)
part H text: RK3588_H(EMMCIO Domain)
part I text: RK3588_I(VCCIO2 Domain)
part J text: RK3588_J(TYPEC/DP)
part K text: RK3588_K(USB2.0 HOST/OTG)
part L text: RK3588_L(VCCIO1 Domain)
part M text: RK3588_M(SARADC/OTP)
part N text: RK3588_N(VCCIO3 Domain)
part O text: RK3588_O(MIPI_D/C_PHY0)
part P text: RK3588_P(MIPI_D/C_PHY1)
part Q text: RK3588_Q(MIPI_DPHY_CSI_RX_PHY)
part R text: RK3588_R(HDMI2.1 TX)
part S text: RK3588_S(HDMI20 RX)
part T text: RK3588_T(PCIE20)
part U text: RK3588_U(PCIE30)
part V text: RK3588_V(VCCIO5 Domain)
part W text: RK3588_W(VCCIO6 Domain)
part X text: RK3588_X(VCCIO4 Domain)

## RM520NGLAA-M20-SGASA
designator U?, comment RM520NGLAA
Cellular LTE, WCDMA Transceiver Module 6GHz Antenna Not Included Card Edge; Manufacturer: Quectel Wireless Solutions; Manufacturer Part Number: RM520NGLAA-M20-SGASA; Supplier 1: Avnet; RoHS: No; Pricing 1: 100=303.84 (USD); Supplier Part Number 1: RM520NGLAA-M20-SGASA
footprint TE_1-2199119-0
part A pins: 2 VCC, 3 GND, 4 VCC, 5 GND, 11 GND, 27 GND, 33 GND, 39 GND, 45 GND, 51 GND, 57 GND, 70 VCC, 71 GND, 72 VCC, 73 GND, 74 VCC
part B pins: 1 CONFIG_3, 6 FUL_CARD_POWER_OFF#, 7 USB_DP, 8 W_DISABLE1#, 9 USB_DM, 10 WWAN_LED#, 20 RESERVED, 21 CONFIG_0, 22 RESERVED, 23 WAKE_ON_WAN#, 24 VDDIO_IV8, 25 DPR, 26 W_DISABLE2#, 28 RESERVED, 29 USB_SS_TX_M, 30 USIM1_RST, 31 USB_SS_TX_P, 32 USIM1_CLK, 34 USIM1_DATA, 35 USB_SS_RX_M, 36 USIM1_VDD, 37 USB_SS_RX_P, 38 WLAN_TX_EN, 40 USIM2_DET, 41 PCIE_TX_M, 42 USIM2_DATA, 43 PCIE_TX_P, 44 USIM2_CLK, 46 USIM2_RST, 47 PCIE_RX_M, 48 USIM2_VDD, 49 PCIE_RX_P, 50 PCIE_RST_N, 52 PCIE_CLKREQ_N, 53 PCIE_REFCLK_M, 54 PCIE_WAKE_N, 55 PCIE_REFCLK_P, 56 RFFE_CLK, 58 RFFE_DATA, 59 RESERVED, 60 N79_TX_EN, 61 RESERVED, 62 COEX_RXD, 63 RESERVED, 64 COEX_TXD, 65 RESERVED, 66 USIM1_DET, 67 RESET#, 68 RESERVED, 69 CONFIG_1, 75 CONFIG_2

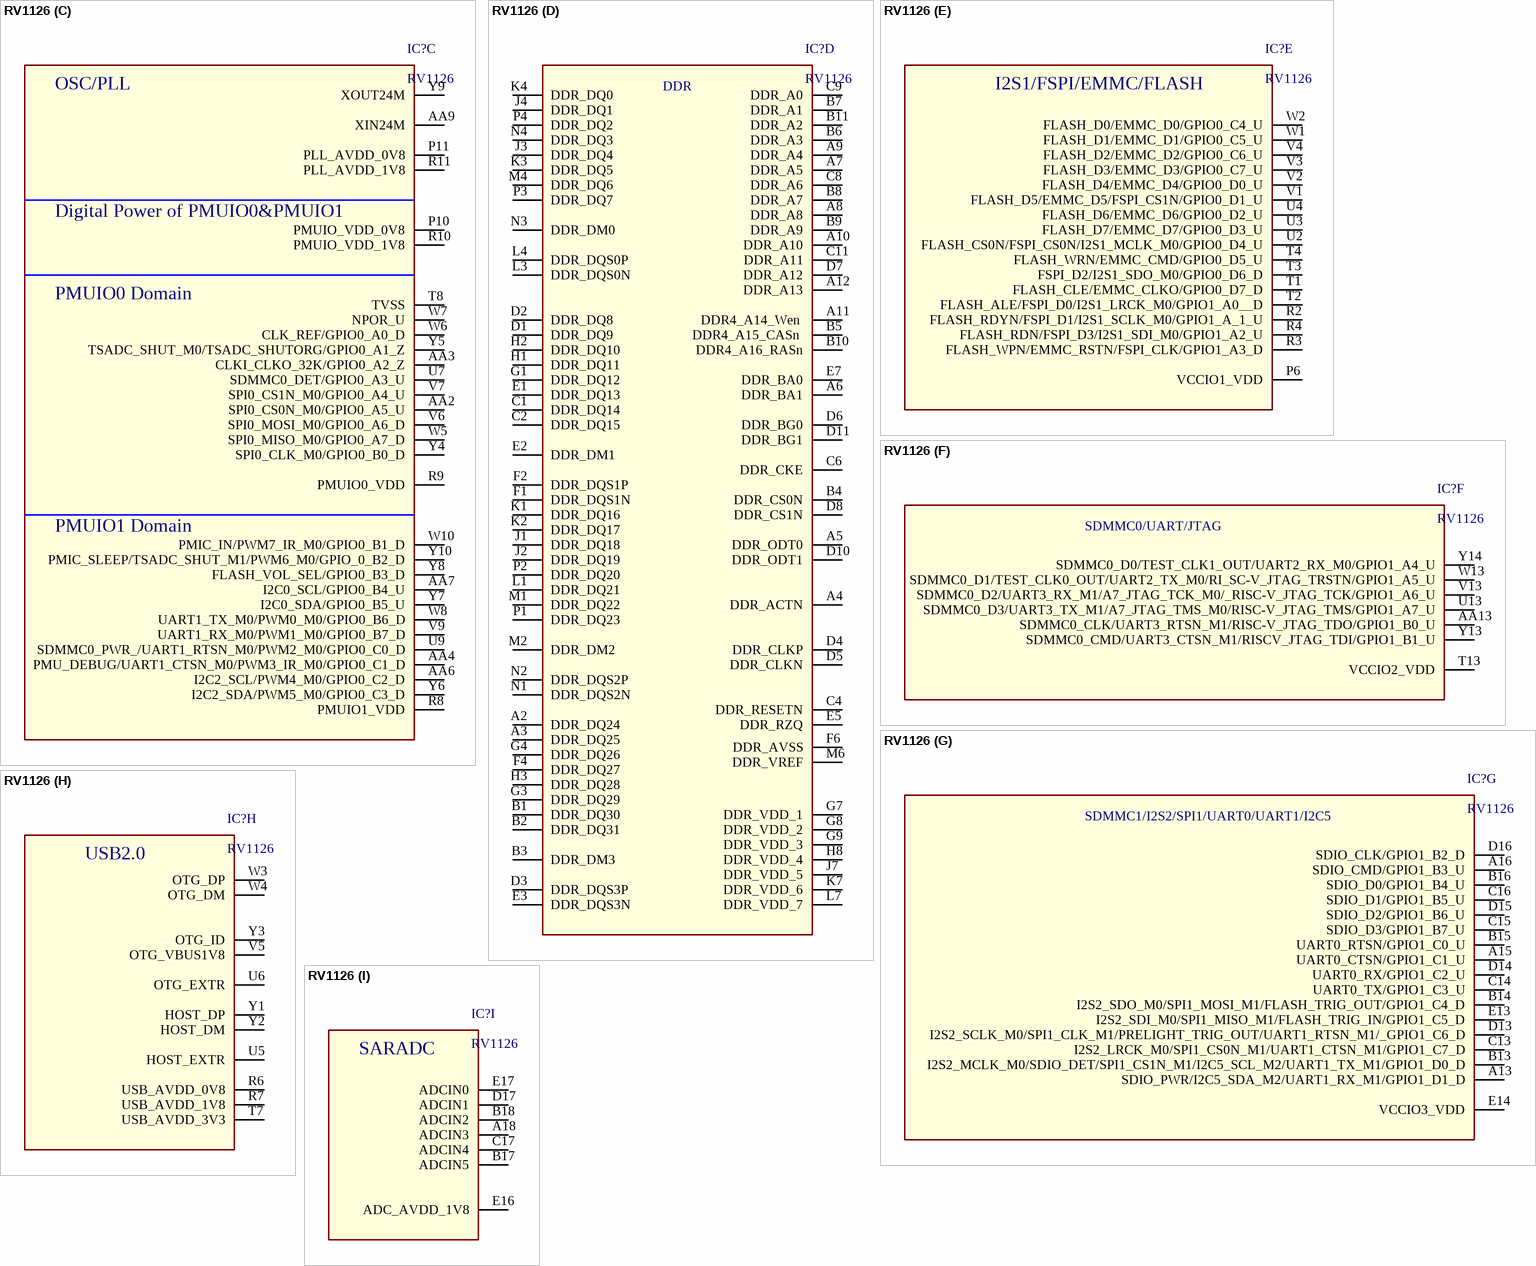
[diagram p17: symbol RV1126]

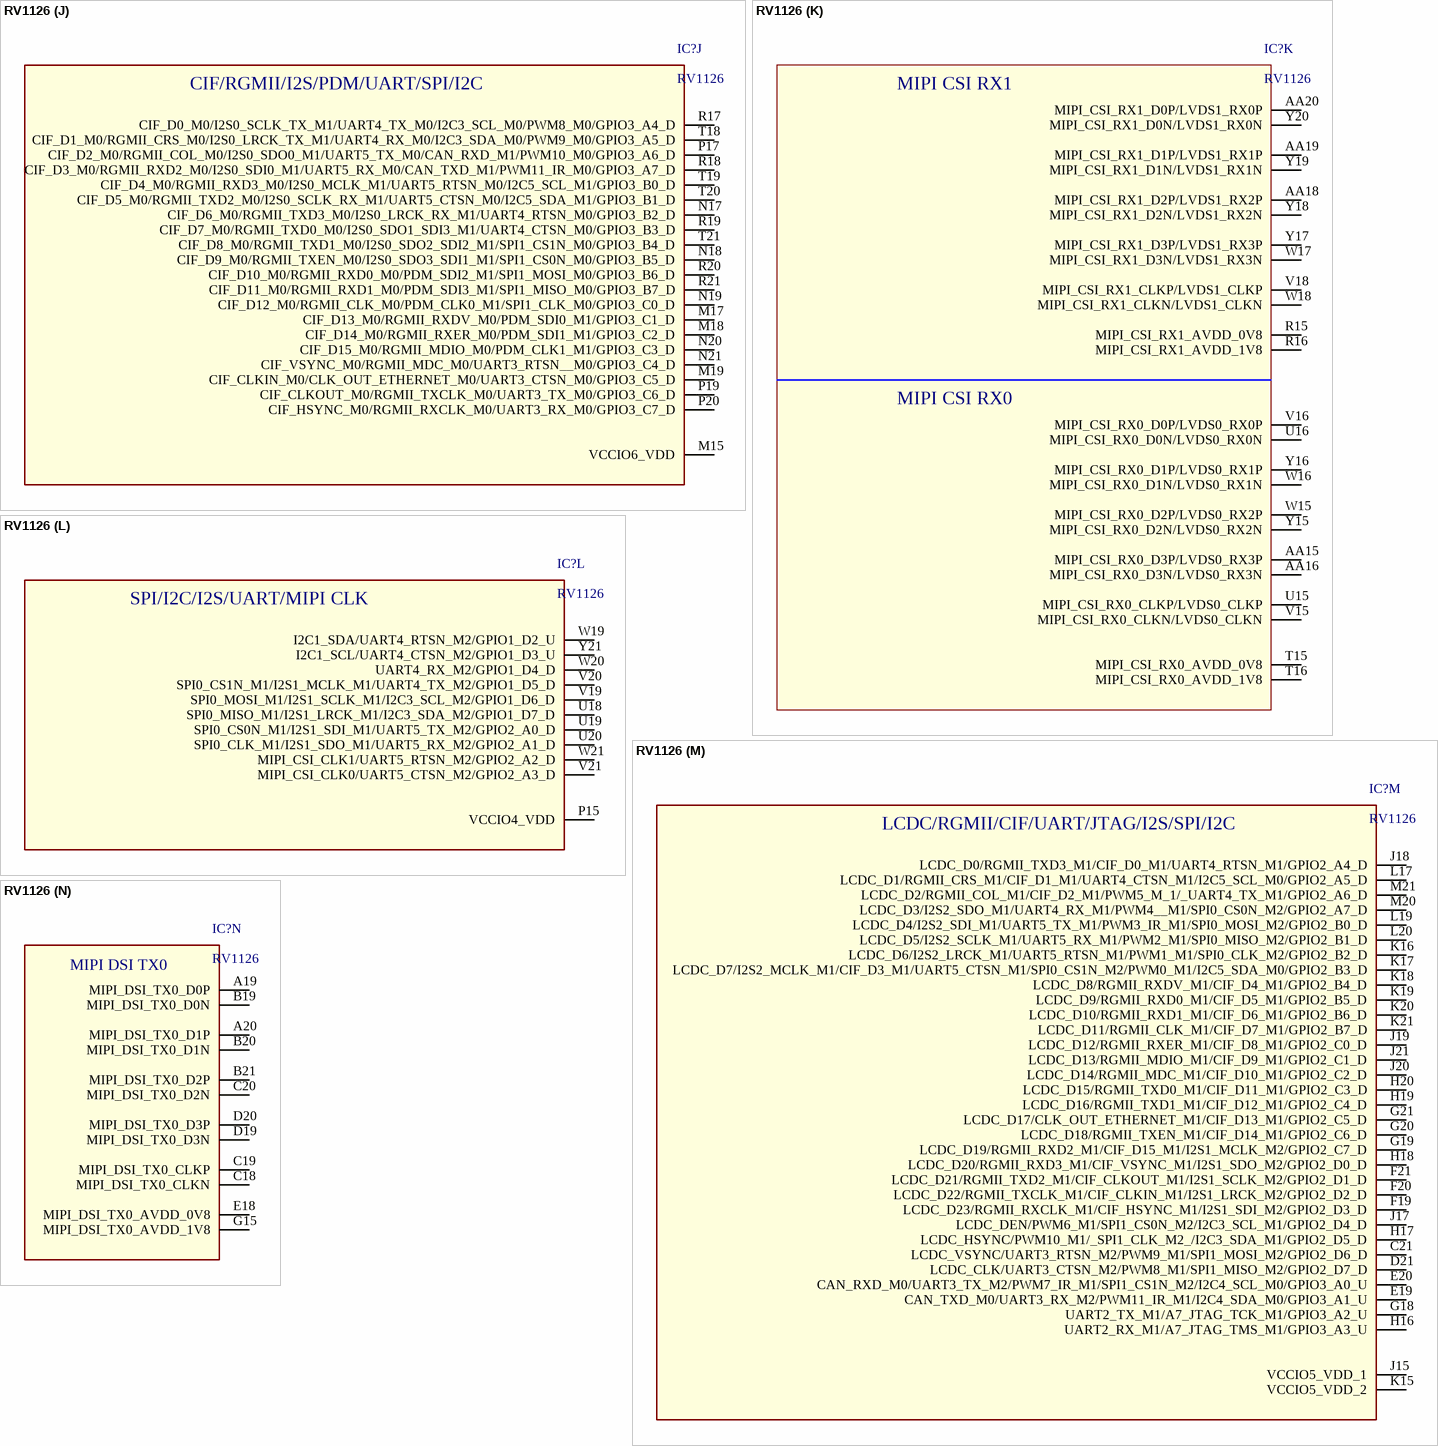
[diagram p18: symbol RV1126]

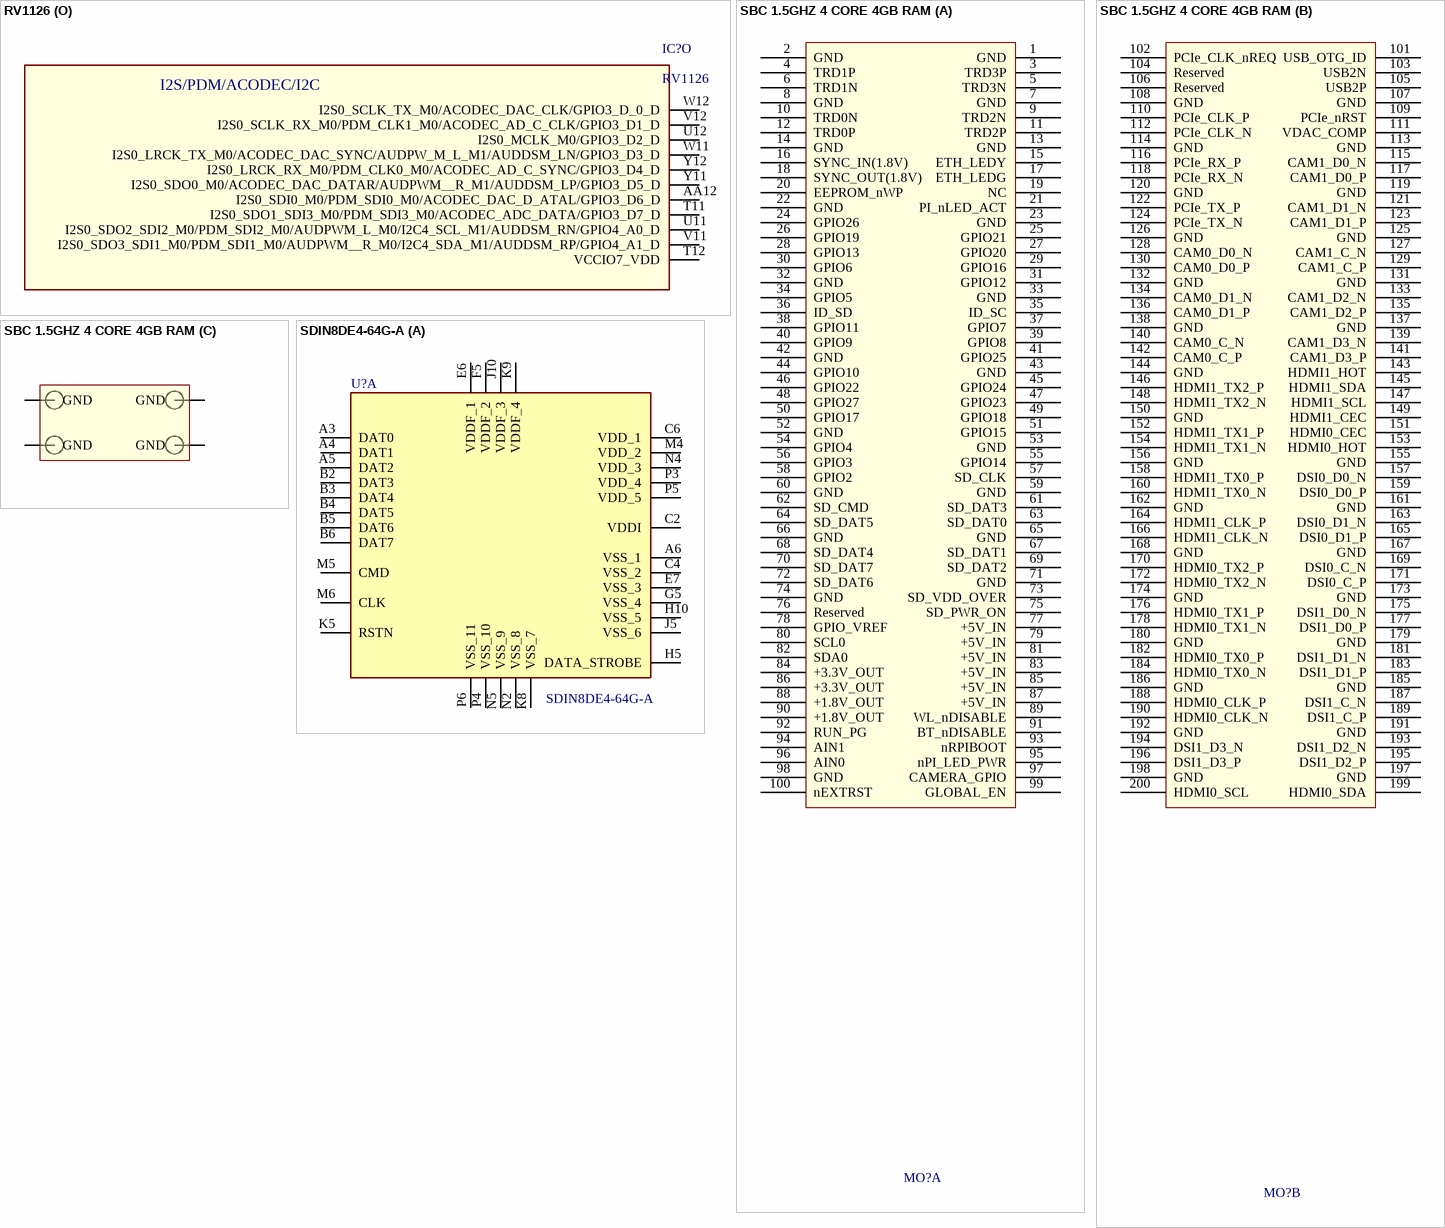
[diagram p19: symbols RV1126 to SDIN8DE4-64G-A]